# Altium schematic symbol library Altium Library Master.SchLib: 676 symbols (part 1 of 4)
Pins are listed as number, name and electrical type; pins without a type are passive.

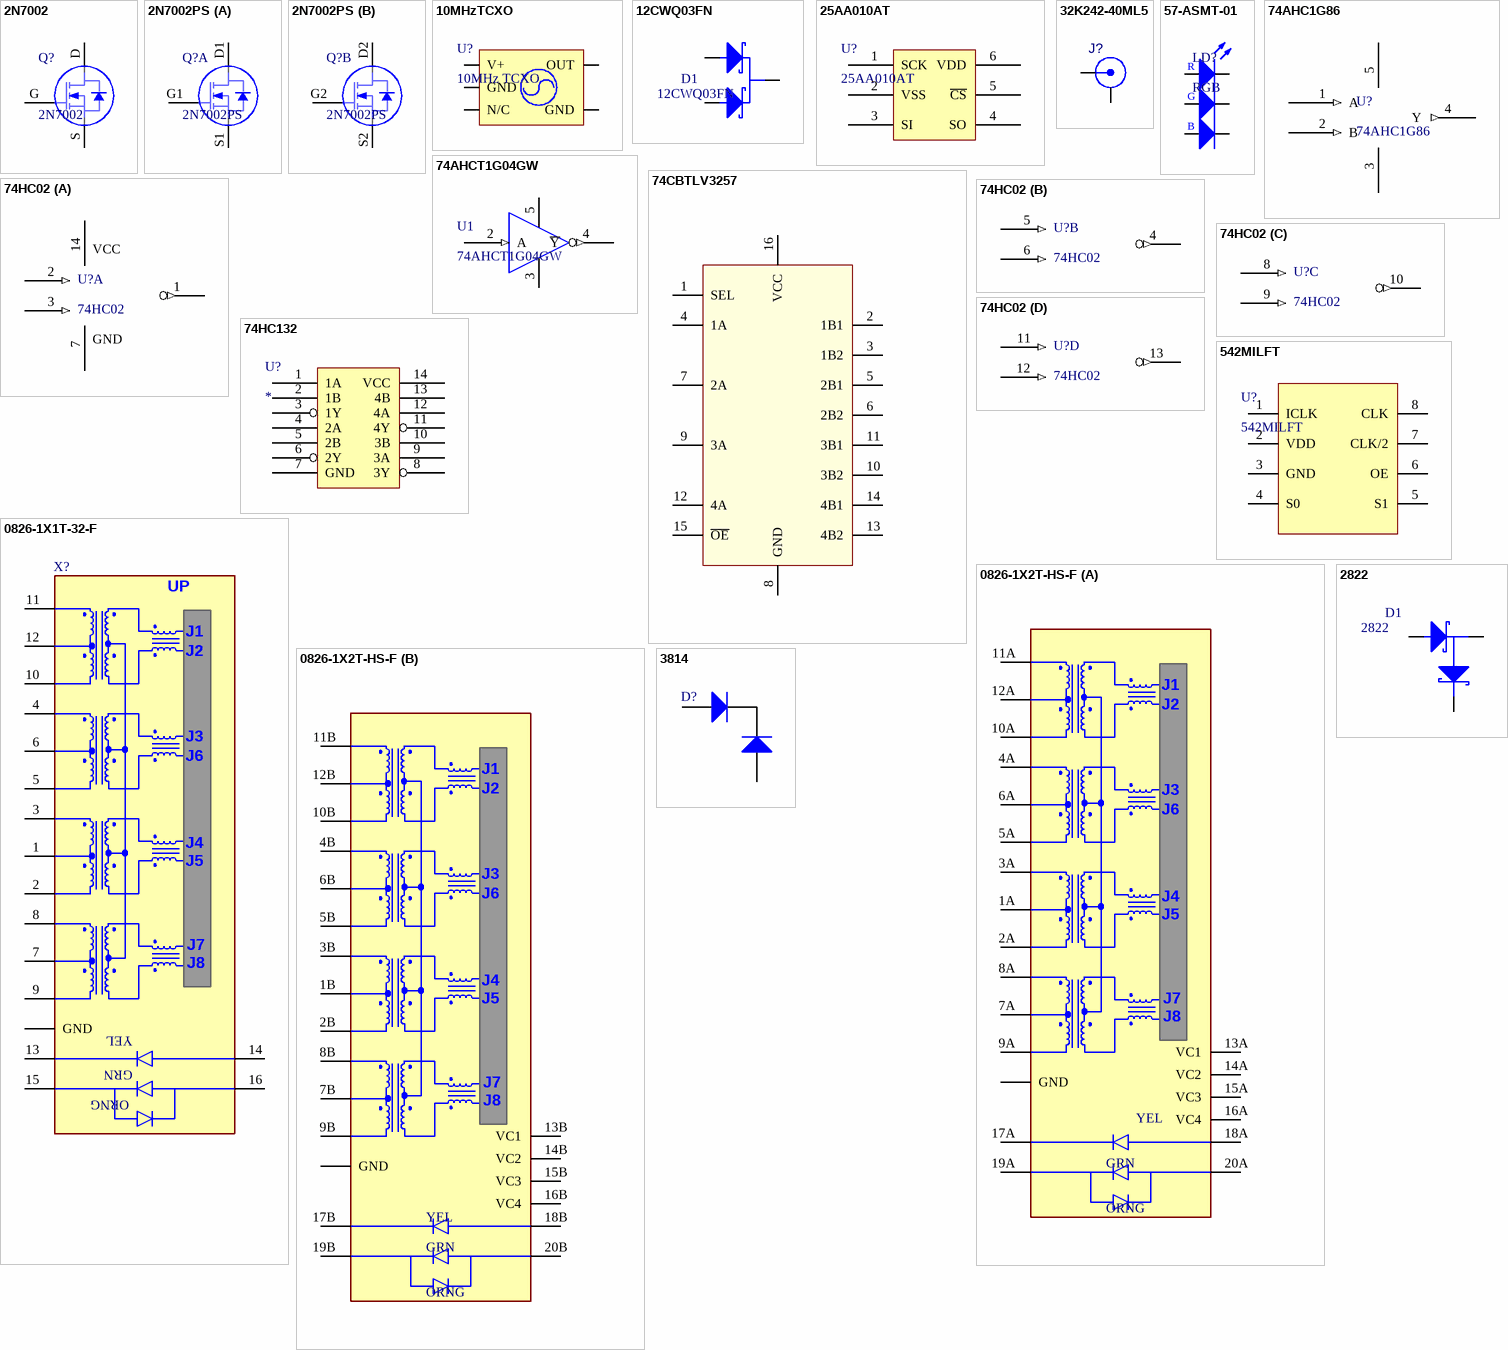
[diagram p0: symbols 2N7002 to 3814]

## 2N7002
designator Q?
Nch MOSFET, 0.2A, 60V
pins: D, G, S

## 2N7002PS
designator Q?
Nch Dual MOSFET, 0.2A, 60V
part A pins: D1, G1, S1
part B pins: D2, G2, S2

## 10MHzTCXO
designator U?, comment 10MHz TCXO
pins: 0 GND, 1 N/C, 2 GND, 3 OUT, 4 V+

## 12CWQ03FN
designator D1
Schottky Rectifier, 2 x 6 A
pins: 1, 2, 4
1 alternate drawing of the same symbol

## 25AA010AT
designator U?
1K SPI EEPROM
pins: 1 SCK, 2 VSS, 3 SI, 4 SO, 5 ~{CS}, 6 VDD

## 32K242-40ML5
designator J?  (value not drawn)
SMA connector, edge mount; Part Number: 30-SAF-22; MPN: 32K242-40ML5
footprint Connector-Sma-edge-Rosenberger (Rosenberger 32P242-40ML5)
pins: 0, 1

## 57-ASMT-01
designator LD?, comment RGB
LED, RGB, 450/560/285mcd@20mA,-40/+110degC, PLCC6; Part Number: 57-ASMT-01
footprint PLCC_ASMT
pins: 1 KB, 2 KG, 3 KR, 4 AR, 5 AG, 6 AB
text: R; G; B

## 74AHC1G86
designator U?
SINGLE 2-INPUT POSITIVE EXCLUSIVE OR GATE
pins: 1 A (in), 2 B (in), 3 GND, 4 Y (out), 5 VCC

## 74AHCT1G04GW
designator U1
Single inverter
pins: 2 A (in), 3 GND (power), 4 ~{Y} (out), 5 VCC (power)

## 74CBTLV3257
designator U?
Quad 1 of 2 multiplexer/demultiplexer, 3V3; Part Number: 20-H10-04
pins: 1 SEL, 2 1B1, 3 1B2, 4 1A, 5 2B1, 6 2B2, 7 2A, 8 GND, 9 3A, 10 3B2, 11 3B1, 12 4A, 13 4B2, 14 4B1, 15 ~{OE}, 16 VCC

## 74HC02
designator U?
NOR Gate, Quad 2-Input HCMOS, SO-14
footprint SOIC/TSSOP-14 (Footprint not found)
part A pins: 1 (out), 2 (in), 3 (in), 7 GND (power), 14 VCC (power)
part B pins: 4 (out), 5 (in), 6 (in)
part C pins: 8 (in), 9 (in), 10 (out)
part D pins: 11 (in), 12 (in), 13 (out)

## 74HC132
designator U?
Hex Inverting SCHMITT
pins: 1 1A, 2 1B, 3 1Y, 4 2A, 5 2B, 6 2Y, 7 GND, 8 3Y, 9 3A, 10 3B, 11 4Y, 12 4A, 13 4B, 14 VCC

## 542MILFT
designator U?
Clock Divider
pins: 1 ICLK, 2 VDD, 3 GND, 4 S0, 5 S1, 6 OE, 7 CLK/2, 8 CLK

## 0826-1X1T-32-F
designator X?
Socket, RJ45, wLEDs, wMagnetics; PCB Mnt, 10/100/1000BaseT; Part Number: 21-A8-13
footprint 0826-1X1T-32-F
pins: 1 4, 2 3, 3, 4, 5 11, 6, 7 9, 8, 9 8, 10 TRD1+, 11 TRD1+, 12 CT1, 13 YK, 14 YA, 15 GKOA, 16 GAOK, S1 GND, S2 GND
text: UP; J1; J2; J3; J6; J4; J5; J7; J8; YEL; GRN; ORNG

## 0826-1X2T-HS-F
designator X?
Socket, 2Gang RJ45, wLEDs, wMagnetics; PCB Mnt, 10/100/1000Base
part A pins: 1A, 2A, 3A, 4A, 5A, 6A, 7A, 8A, 9A, 10A, 11A, 12A, 13A VC1, 14A VC2, 15A VC3, 16A VC4, 17A YK, 18A YA, 19A GKOA, 20A GAOK, S1 GND
part B pins: 1B, 2B, 3B, 4B, 5B, 6B, 7B, 8B, 9B, 10B, 11B, 12B, 13B VC1, 14B VC2, 15B VC3, 16B VC4, 17B YK, 18B YA, 19B GKOA, 20B GAOK, S2 GND
part A text: J1; J2; J3; J6; J4; J5; J7; J8; YEL; GRN; ORNG
part B text: J1; J2; J3; J6; J4; J5; J7; J8; YEL; GRN; ORNG

## 2822
designator D1
pins: A, K, KA
1 alternate drawing of the same symbol

## 3814
designator D?
Dual Diode, Common Kathode
pins: 0 A2, A, K

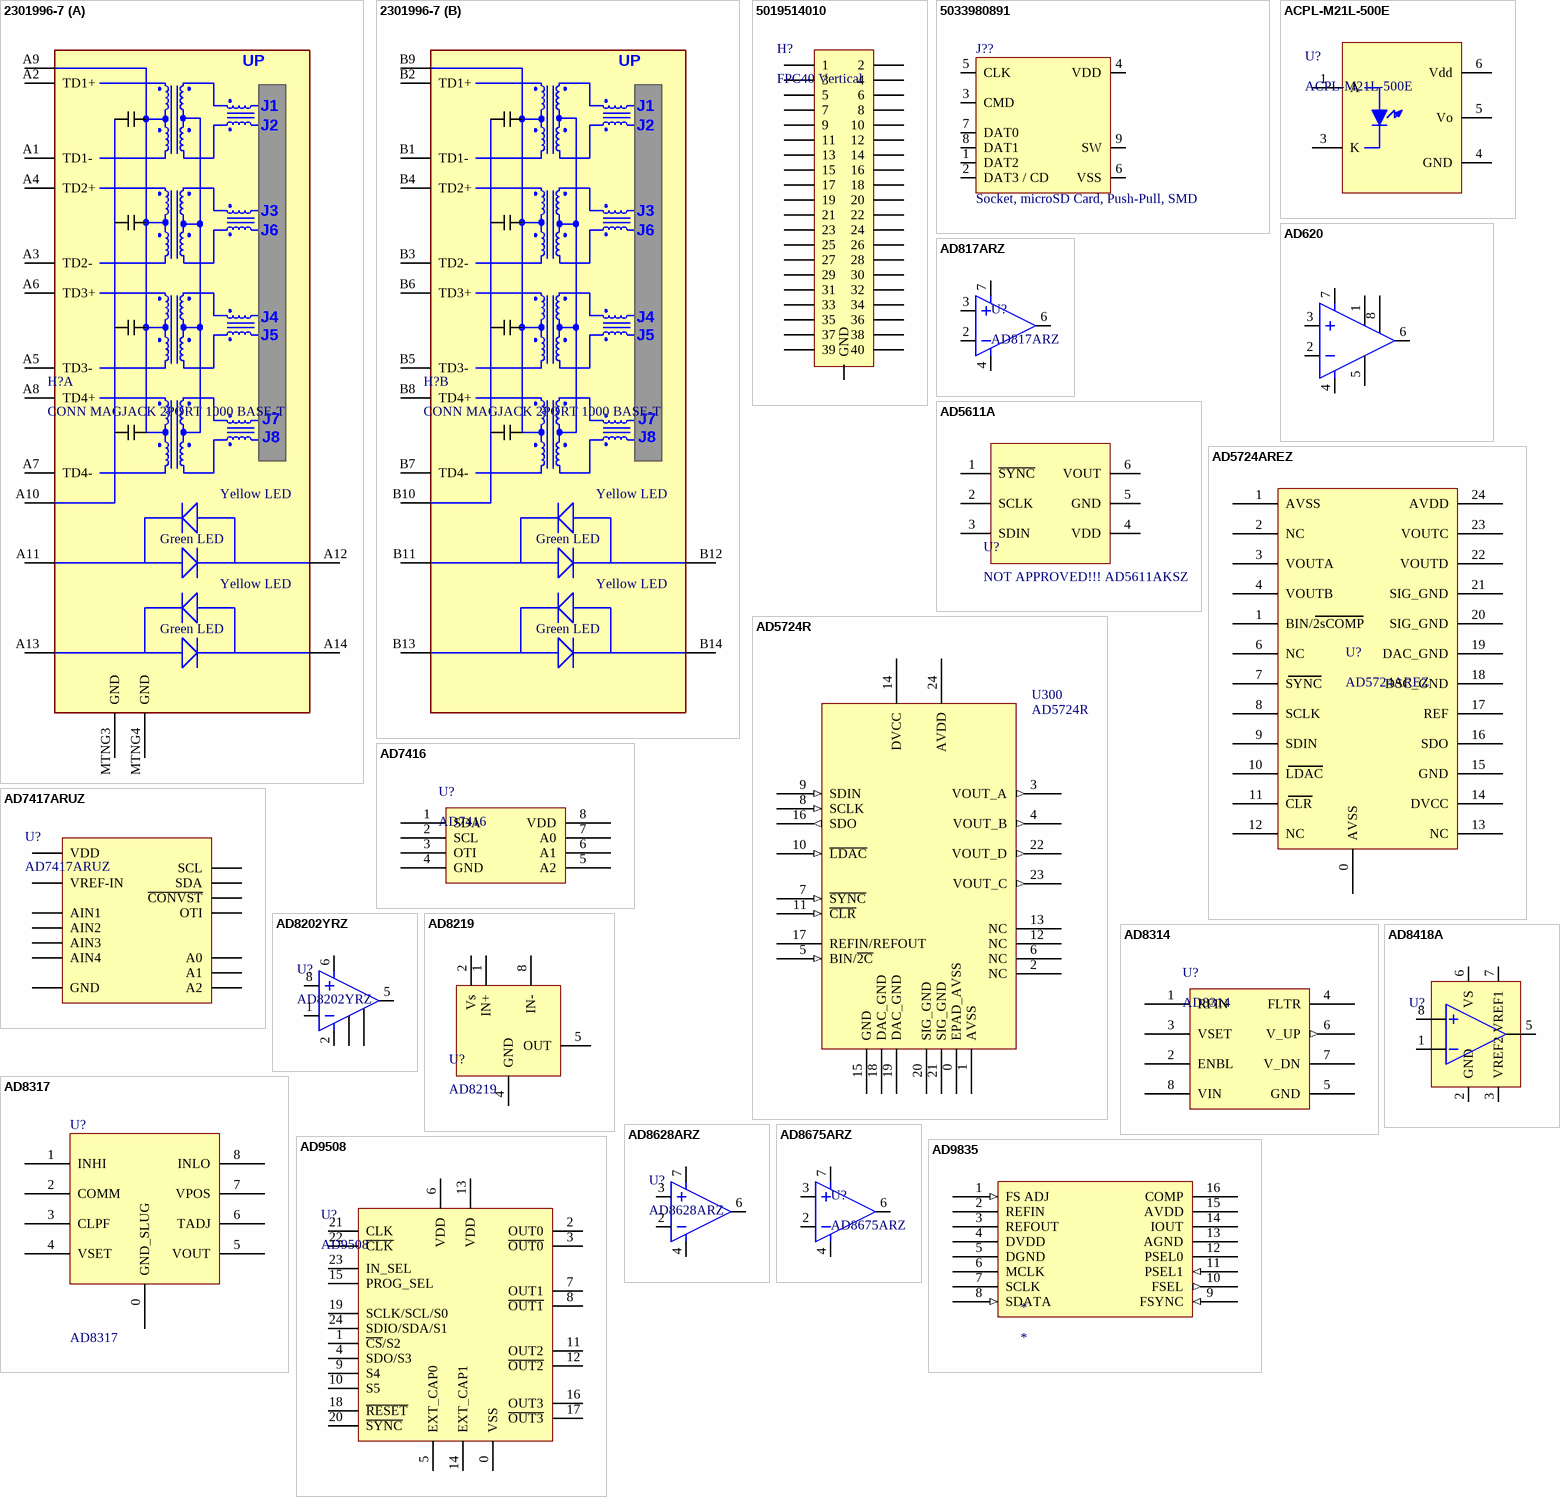
[diagram p1: symbols 2301996-7 to AD9835]

## 2301996-7
designator H?, comment CONN MAGJACK 2PORT 1000 BASE-T
part A pins: A1 TD1-, A2 TD1+, A3 TD2-, A4 TD2+, A5 TD3-, A6 TD3+, A7 TD4-, A8 TD4+, A9 9, A10 10, A11 11, A12 12, A13 13, A14 14, MTNG3 GND, MTNG4 GND
part B pins: B1 TD1-, B2 TD1+, B3 TD2-, B4 TD2+, B5 TD3-, B6 TD3+, B7 TD4-, B8 TD4+, B9 9, B10 10, B11 11, B12 12, B13 13, B14 14
part A text: UP; J1; J2; J3; J6; J4; J5; J7; J8; Yellow LED; Green LED
part B text: UP; J1; J2; J3; J6; J4; J5; J7; J8; Yellow LED; Green LED

## 5019514010
designator H?, comment FPC40 Vertical
FPC Header, 20+20way, Vert, 0.5mm, 4.34mm Height, SMD; Part Number: 20-H40-04
footprint FPC_0.5_40
pins: 0 GND, 1, 2, 3, 4, 5, 6, 7, 8, 9, 10, 11, 12, 13, 14, 15, 16, 17, 18, 19, 20, 21, 22, 23, 24, 25, 26, 27, 28, 29, 30, 31, 32, 33, 34, 35, 36, 37, 38, 39, 40

## 5033980891
designator J??, comment Socket, microSD Card, Push-Pull, SMD
Molex 20um push-push sd card 8+1; Part Number: 21-SD-02
footprint 5033980891_MOLEX
pins: 1 DAT2, 2 DAT3 / CD, 3 CMD, 4 VDD (power), 5 CLK, 6 VSS (power), 7 DAT0, 8 DAT1, 9 SW, 10 VSS (power), S1 VSS (power), S2 VSS (power), S3 VSS (power), S4 VSS (power)

## ACPL-M21L-500E
designator U?
Optocoupler, 3.75kV,  Logic Output, SO5, -40/+105degC; Part Number: 57-M21L-01
footprint SO5-M21L (SOIC, 6-Leads, Body 3.60x4.40mm, Pitch 1.27mm, IPC High Density)
pins: 1 A, 3 K, 4 GND, 5 Vo, 6 Vdd

## AD620
designator U?
Low Power Instrumentation Amplifier; Part Number: 20-H10-04
pins: 1 RG1, 2 -IN, 3 +IN, 4 Vs-, 5 REF, 6 OUT, 7 Vs+, 8 RG2

## AD817ARZ
designator U?
Op Amp, Wideband, 350V/us, 36V, SO-8
pins: 2, 3, 4, 6, 7

## AD5611A
designator U?, comment NOT APPROVED!!! AD5611AKSZ
D/A Converter, 10 Bit, SPI, 2.7-5.5V, -40/+125degC, SOT-363
pins: 1 ~{SYNC}, 2 SCLK, 3 SDIN, 4 VDD, 5 GND, 6 VOUT

## AD5724AREZ
designator U?
D/A Converter, 12 Bit, SPI, Bipolar Voltage Out, TSSOP_EP-24
pins: 0 AVSS, 1 BIN/2sCOMP, 1 AVSS, 2 NC, 3 VOUTA, 4 VOUTB, 6 NC, 7 SYNC, 8 SCLK, 9 SDIN, 10 LDAC, 11 CLR, 12 NC, 13 NC, 14 DVCC, 15 GND, 16 SDO, 17 REF, 18 DSC_GND, 19 DAC_GND, 20 SIG_GND, 21 SIG_GND, 22 VOUTD, 23 VOUTC, 24 AVDD

## AD5724R
designator U300
pins: 0 EPAD_AVSS (power), 1 AVSS (power), 2 NC, 3 VOUT_A (out), 4 VOUT_B (out), 5 BIN/~{2C} (in), 6 NC, 7 ~{SYNC} (in), 8 SCLK (in), 9 SDIN (in), 10 ~{LDAC} (in), 11 ~{CLR} (in), 12 NC, 13 NC, 14 DVCC (power), 15 GND (power), 16 SDO (out), 17 REFIN/REFOUT, 18 DAC_GND (power), 19 DAC_GND (power), 20 SIG_GND (power), 21 SIG_GND (power), 22 VOUT_D (out), 23 VOUT_C (out), 24 AVDD (power)

## AD7416
designator U?
10-Bit Digital Temperature Sensor
pins: 1 SDA, 2 SCL (power), 3 OTI, 4 GND, 5 A2 (power), 6 A1 (power), 7 A0, 8 VDD (power)

## AD7417ARUZ
designator U?
Temp Sensor, 10bit 2%, 4ch ADC, IIC, -40/+125degC, TSSOP-16
pins: 2 SDA, 3 SCL, 4 OTI, 5 VREF-IN, 6 GND, 7 AIN1, 8 AIN2, 9 AIN3, 10 AIN4, 11 A2, 12 A1, 13 A0, 14 VDD, 15 ~{CONVST}

## AD8202YRZ
designator U?
Difference Amp, Hi Common-Mode Volt, -40/+125degC, SO-8
pins: 1 -IN, 2 GND, 3 A1, 4 A2, 5 OUT, 6 Vs, 8 +IN

## AD8219
designator U?
Current Shunt Monitor, 80V, -40/+125degC, MSOP-8
pins: 1 IN+, 2 Vs, 4 GND, 5 OUT, 8 IN-

## AD8314
designator U?
100MHz to 2.7GHz, 45dB RF Detector/Controller
pins: 1 RFIN, 2 ENBL, 3 VSET (power), 4 FLTR (power), 5 GND (power), 6 V_UP (out), 7 V_DN (power), 8 VIN

## AD8317
designator U?
10GHz Log Detector/Controller
pins: 0 GND_SLUG (power), 1 INHI, 2 COMM, 3 CLPF, 4 VSET, 5 VOUT, 6 TADJ, 7 VPOS, 8 INLO

## AD8418A
designator U?
Low noise rail-rail op-amp
pins: 1 IN-, 2 GND, 3 VREF2, 5 Out, 6 VS, 7 VREF1, 8 IN+

## AD8628ARZ
designator U?
Op Amp, Zero-Drift, Rail-Rail I/O, SO-8
pins: 2, 3, 4, 6, 7

## AD8675ARZ
designator U?
Op Amp, Low Noise, Rail-Rail, 36V, SO-8
pins: 2, 3, 4, 6, 7

## AD9508
designator U?
Clock Buffer/divider, LVDS/HSTL/CMOS, +3V3
pins: 0 VSS, 1 ~{CS}/S2, 2 OUT0, 3 ~{OUT0}, 4 SDO/S3, 5 EXT_CAP0, 6 VDD, 7 OUT1, 8 ~{OUT1}, 9 S4, 10 S5, 11 OUT2, 12 ~{OUT2}, 13 VDD, 14 EXT_CAP1, 15 PROG_SEL, 16 OUT3, 17 ~{OUT3}, 18 ~{RESET}, 19 SCLK/SCL/S0, 20 ~{SYNC}, 21 CLK, 22 ~{CLK}, 23 IN_SEL, 24 SDIO/SDA/S1

## AD9835
designator *
50MHz Complete DDS
footprint TSSOP16
pins: 1 FS ADJ (in), 2 REFIN (power), 3 REFOUT (power), 4 DVDD (power), 5 DGND (power), 6 MCLK (power), 7 SCLK (power), 8 SDATA (in), 9 FSYNC (in), 10 FSEL (out), 11 PSEL1 (in), 12 PSEL0, 13 AGND (power), 14 IOUT (power), 15 AVDD (power), 16 COMP (power)

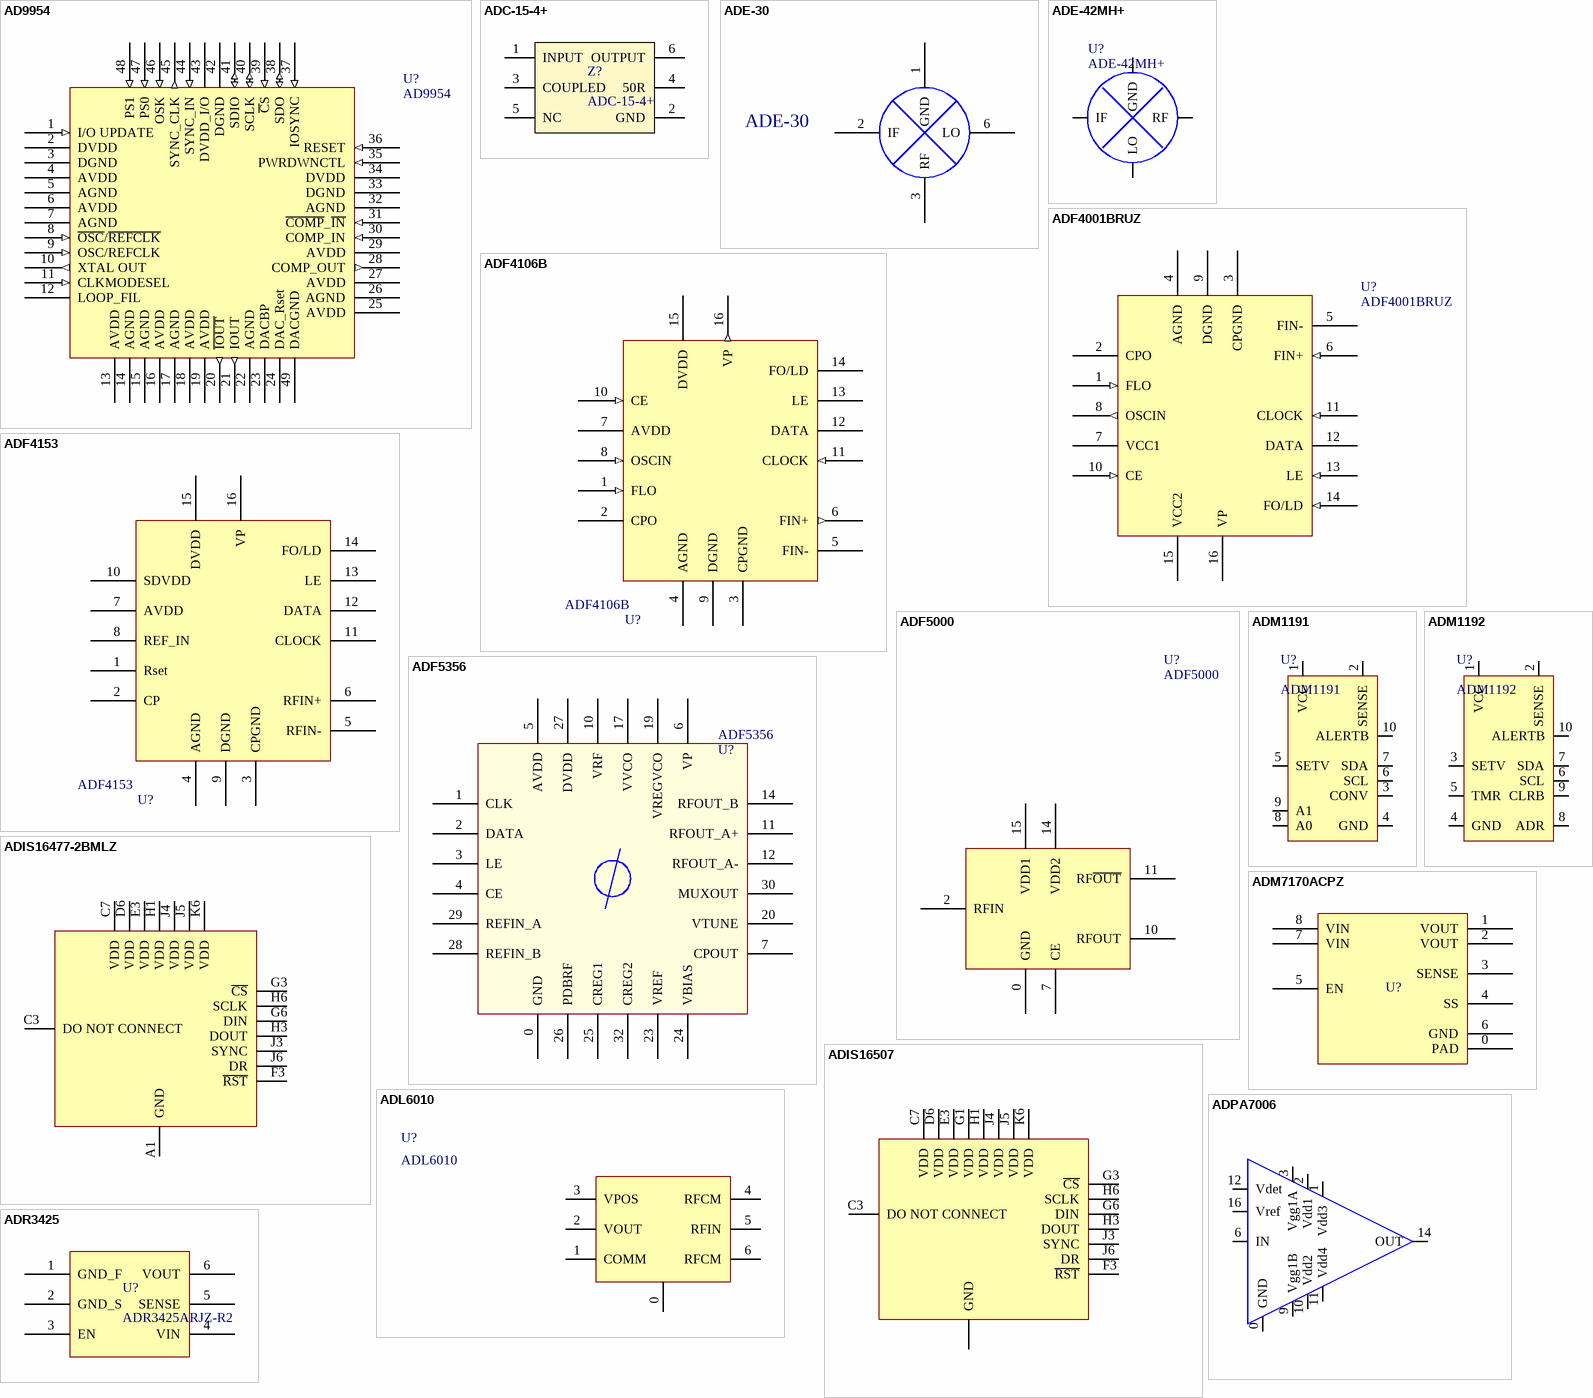
[diagram p2: symbols AD9954 to ADR3425]

## AD9954
designator U?
Direct Digital Synthesizer
pins: 1 I/O UPDATE (in), 2 DVDD (power), 3 DGND (power), 4 AVDD (power), 5 AGND (power), 6 AVDD (power), 7 AGND (power), 8 ~{OSC}/~{REFCLK} (in), 9 OSC/REFCLK (in), 10 XTAL OUT (out), 11 CLKMODESEL (in), 12 LOOP_FIL, 13 AVDD (power), 14 AGND (power), 15 AGND (power), 16 AVDD (power), 17 AGND (power), 18 AVDD (power), 19 AVDD (power), 20 ~{IOUT} (out), 21 IOUT (out), 22 AGND (power), 23 DACBP, 24 DAC_Rset, 25 AVDD (power), 26 AGND (power), 27 AVDD (power), 28 COMP_OUT (out), 29 AVDD (power), 30 COMP_IN (in), 31 ~{COMP}_~{IN} (in), 32 AGND (power), 33 DGND (power), 34 DVDD (power), 35 PWRDWNCTL (in), 36 RESET (in), 37 IOSYNC (in), 38 SDO (io), 39 ~{C}S (in), 40 SCLK (io), 41 SDIO (io), 42 DGND (power), 43 DVDD_I/O, 44 SYNC_IN (in), 45 SYNC_CLK (out), 46 OSK (in), 47 PS0 (in), 48 PS1 (in), 49 DACGND (power)

## ADC-15-4+
designator Z?
Dircetional Coupler, 50R, 5-1000MHz; Part Number: 33-0058
footprint ADC-15-4+ (Directional Coupler 50R, 5-1000MHz)
pins: 1 INPUT, 2 GND, 3 COUPLED, 4 50R, 5 NC, 6 OUTPUT

## ADE-30
designator M6
pins: 1 GND, 2 IF, 3 RF, 4 GND hidden to GND, 5 GND hidden to GND, 6 LO

## ADE-42MH+
designator U?
Mixer, RF=5-4200MHz, IF=5-4200MHz, LO=+13dBm, SMD
pins: 1 GND, 2 IF, 3 RF, 4 GND hidden to GND, 5 GND hidden to GND, 6 LO

## ADF4001BRUZ
designator U?
PLL Clock Gen, 200MHz, Serial TSSOP-16
pins: 1 FLO (in), 2 CPO, 3 CPGND, 4 AGND, 5 FIN- (power), 6 FIN+ (in), 7 VCC1 (power), 8 OSCIN (out), 9 DGND, 10 CE (in), 11 CLOCK (in), 12 DATA, 13 LE (in), 14 FO/LD (in), 15 VCC2 (power), 16 VP (power)

## ADF4106B
designator U?
pins: 1 FLO (in), 2 CPO, 3 CPGND (power), 4 AGND (power), 5 FIN- (power), 6 FIN+ (out), 7 AVDD (power), 8 OSCIN (in), 9 DGND, 10 CE (in), 11 CLOCK (in), 12 DATA, 13 LE, 14 FO/LD, 15 DVDD, 16 VP (out)

## ADF4153
designator U?
pins: 1 Rset, 2 CP, 3 CPGND (power), 4 AGND (power), 5 RFIN- (power), 6 RFIN+, 7 AVDD (power), 8 REF_IN, 9 DGND, 10 SDVDD, 11 CLOCK, 12 DATA, 13 LE, 14 FO/LD, 15 DVDD, 16 VP

## ADF5000
designator U?
4-18GHz Divide-by-2 Prescaler
pins: 0 GND, 1 GND hidden to GND, 2 RFIN, 3 GND hidden to GND, 4 GND hidden to GND, 5 GND hidden to GND, 7 CE, 8 GND hidden to GND, 9 GND hidden to GND, 10 RFOUT, 11 RF~{OUT}, 12 GND hidden to GND, 13 GND hidden to GND, 14 VDD2, 15 VDD1, 16 GND hidden to GND

## ADF5356
designator U?
13.6GHz fractional PLL.
pins: 0 GND, 1 CLK "Clock", 2 DATA "Data", 3 LE "Load Enable", 4 CE "Chip Enable", 5 AVDD "Analog Power Supply", 6 VP "CP Power Supply", 7 CPOUT "CP Output", 8 GND hidden "Ground", 9 GND hidden "Ground", 10 VRF "RF Output Power Supply", 11 RFOUT_A+ "RF Output A+", 12 RFOUT_A- "RF Output A-", 13 GND hidden "Ground", 14 RFOUT_B "RF Output B", 15 GND hidden "Ground", 16 AVDD "Analog Power Supply", 17 VVCO "VCO Power Supply", 18 GND hidden "Ground", 19 VREGVCO "VCO Compensation", 20 VTUNE "VCO Control Input", 21 GND hidden "Ground", 22 N/C hidden "Not Connected", 23 VREF "Internal Compensation", 24 VBIAS "Ref Voltage", 25 CREG1 "LDO Output", 26 PDBRF "Power-Down RF", 27 DVDD "Digital Power Supply", 28 REFIN_B "Reference Input B", 29 REFIN_A "Reference Input A", 30 MUXOUT (power) "Multiplexer Output", 31 GND hidden "Ground", 32 CREG2 "LDO Output"

## ADIS16477-2BMLZ
designator U?
Inertial Measurement Unit, IMU, Triaxial Gyro, Accelerometer, 3V3, 11mmx15mm 44-BGA; Part Number: 20-H10-04
pins: A1 GND, A2 GND, A3 GND, A4 GND, A5 GND, A6 GND, A7 GND, A8 GND, B3 GND, B4 GND, B5 GND, B6 GND, C2 GND, C3 DO NOT CONNECT, C6 GND, C7 VDD, D3 GND, D6 VDD, E2 GND, E3 VDD, E6 GND, E7 GND, F1 GND, F3 ~{RST}, F6 GND, F8 GND, G2 GND, G3 ~{CS}, G6 DIN, G7 GND, H1 VDD, H3 DOUT, H6 SCLK, H8 GND, J2 GND, J3 SYNC, J4 VDD, J5 VDD, J6 DR, J7 GND, K1 GND, K3 GND, K6 VDD, K8 GND

## ADIS16507
designator U?
Inertial Measurement Unit, IMU, Triaxial Gyro, Accelerometer, 3V3, , 15mmx15mm 100-BGA; Part Number: 20-H10-04
footprint BGA100C127P10X10_1500X1500X608 (BGA, 100-Leads, Body 15.00x15.00mmx6.08mm, Pitch 1.27mm)
pins: A1 GND, A2 GND, A3 GND, A4 GND, A5 GND, A6 GND, A7 GND, A8 GND, B3 GND, B4 GND, B5 GND, B6 GND, C2 GND, C3 DO NOT CONNECT, C6 GND, C7 VDD, D3 GND, D6 VDD, E2 GND, E3 VDD, E6 GND, E7 GND, F1 GND, F3 ~{RST}, F5 GND, F6 GND, F8 GND, G1 VDD, G2 GND, G3 ~{CS}, G6 DIN, G7 GND, H1 VDD, H3 DOUT, H6 SCLK, H8 GND, J2 GND, J3 SYNC, J4 VDD, J5 VDD, J6 DR, J7 GND, K1 GND, K3 GND, K6 VDD, K8 GND

## ADL6010
designator U?
pins: 0 GND, 1 COMM, 2 VOUT, 3 VPOS, 4 RFCM, 5 RFIN, 6 RFCM

## ADM1191
designator U?
Analog Devices Digital Power Monitor
pins: 1 VCC, 2 SENSE, 3 CONV, 4 GND, 5 SETV, 6 SCL, 7 SDA, 8 A0, 9 A1, 10 ALERTB

## ADM1192
designator U?
Analog Devices Digital Power Monitor
pins: 1 VCC, 2 SENSE, 3 SETV, 4 GND, 5 TMR, 6 SCL, 7 SDA, 8 ADR, 9 CLRB, 10 ALERTB

## ADM7170ACPZ
designator U?
3.3/5.0V, 500mA, Ultralow Noise LDO
footprint LFSCP50P300X300X80_HS-9N (LFSCP, 8-Leads, Body 3.00x3.00mm, Pitch 0.50mm, Thermal Pad 1.60x2.44mm, IPC Medium Density)
pins: 0 PAD, 1 VOUT, 2 VOUT, 3 SENSE, 4 SS, 5 EN, 6 GND, 7 VIN, 8 VIN

## ADPA7006
designator U?
Part Number: 20-H10-04
pins: 0 GND, 1 Vdd3, 2 Vdd1, 3 Vgg1A, 4 GND hidden to GND, 5 GND hidden to GND, 6 IN, 7 GND hidden to GND, 8 GND hidden to GND, 9 Vgg1B, 10 Vdd2, 11 Vdd4, 12 Vdet, 13 GND hidden to GND, 14 OUT, 15 GND hidden to GND, 16 Vref

## ADR3425
designator U?, comment ADR3425ARJZ-R2
Voltage Ref, 2.50V +/-0.1%, 8ppm/degC, -40/+125degC, SOT-23/6
pins: 1 GND_F, 2 GND_S, 3 EN, 4 VIN, 5 SENSE, 6 VOUT

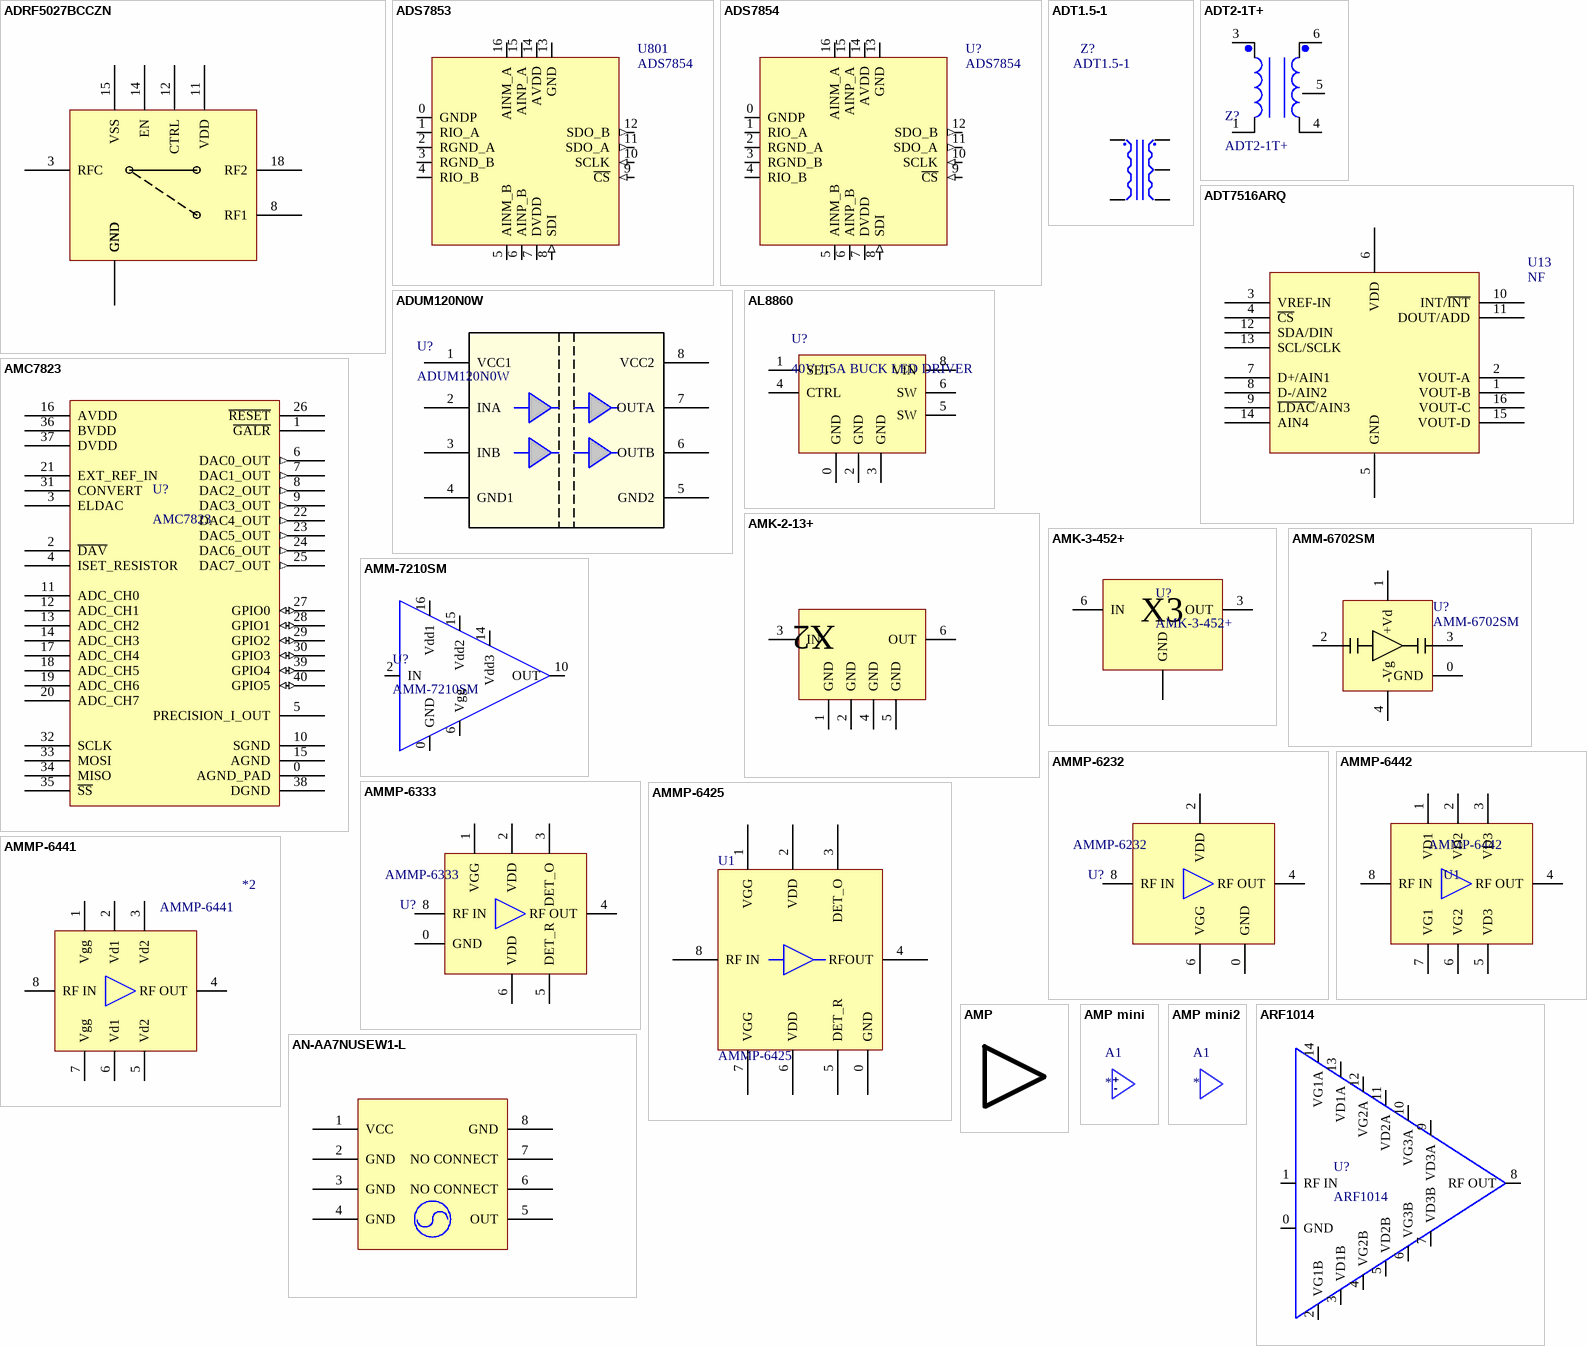
[diagram p3: symbols ADRF5027BCCZN to ARF1014]

## ADRF5027BCCZN
designator U?
RF Switch, SPDT, DC-4GHz, IL=0.9dB, I=65dB, P=31dBm, 5V, LP4; Part Number: 20-H10-04
pins: 0 GND, 1 GND, 2 GND, 3 RFC, 4 GND, 5 GND, 6 GND, 7 GND, 8 RF1, 9 GND, 10 GND, 11 VDD, 12 CTRL, 13 GND, 14 EN, 15 VSS, 16 GND, 17 GND, 18 RF2, 19 GND, 20 GND

## ADS7853
designator U801, comment ADS7854
pins: 0 GNDP (power), 1 RIO_A, 2 RGND_A, 3 RGND_B, 4 RIO_B, 5 AINM_B, 6 AINP_B, 7 DVDD (power), 8 SDI (in), 9 ~{CS} (in), 10 SCLK (in), 11 SDO_A (out), 12 SDO_B (out), 13 GND (power), 14 AVDD (power), 15 AINP_A, 16 AINM_A

## ADS7854
designator U?
pins: 0 GNDP (power), 1 RIO_A, 2 RGND_A, 3 RGND_B, 4 RIO_B, 5 AINM_B, 6 AINP_B, 7 DVDD (power), 8 SDI (in), 9 ~{CS} (in), 10 SCLK (in), 11 SDO_A (out), 12 SDO_B (out), 13 GND (power), 14 AVDD (power), 15 AINP_A, 16 AINM_A

## ADT1.5-1
designator Z?
pins: 1, 2, 3, 4, 6

## ADT2-1T+
designator Z?
RF Transformer. 0.4-450MHz, 50ohm, SMD
pins: 1, 3, 4, 5, 6

## ADT7516ARQ
designator U13, comment NF
footprint QSOP16 (SSOP; 16 Leads; Body Width 3.9 mm; Pitch 0.635 mm)
pins: 1 VOUT-B, 2 VOUT-A, 3 VREF-IN, 4 ~{CS}, 5 GND, 6 VDD (power), 7 D+/AIN1, 8 D-/AIN2, 9 ~{LDAC}/AIN3, 10 INT/~{INT}, 11 DOUT/ADD, 12 SDA/DIN, 13 SCL/SCLK, 14 AIN4, 15 VOUT-D, 16 VOUT-C

## ADUM120N0W
designator U?
Digital Isolator, Dual, Isol=3kVrms, 150MBs
pins: 1 VCC1, 2 INA, 3 INB, 4 GND1, 5 GND2, 6 OUTB, 7 OUTA, 8 VCC2

## AL8860
designator U?, comment 40V 1.5A BUCK LED DRIVER
pins: 0 GND, 1 SET, 2 GND, 3 GND, 4 CTRL, 5 SW, 6 SW, 7 N/C hidden, 8 VIN

## AMC7823
designator U?
Port Expander, 6 GPIO, 8ch 12-bit ADC, 8 12-bit DACs
footprint QFN50P567X600X80_HS-41N (QFN, 40-Leads, Body 5.67x6.00mm, Pitch 0.50mm, Thermal Pad 4.15x4.15mm, IPC Medium Density)
pins: 0 AGND_PAD, 1 ~{GALR}, 2 ~{DAV}, 3 ELDAC, 4 ISET_RESISTOR, 5 PRECISION_I_OUT, 6 DAC0_OUT (out), 7 DAC1_OUT (out), 8 DAC2_OUT (out), 9 DAC3_OUT (out), 10 SGND, 11 ADC_CH0, 12 ADC_CH1, 13 ADC_CH2, 14 ADC_CH3, 15 AGND, 16 AVDD, 17 ADC_CH4, 18 ADC_CH5, 19 ADC_CH6, 20 ADC_CH7, 21 EXT_REF_IN, 22 DAC4_OUT (out), 23 DAC5_OUT (out), 24 DAC6_OUT (out), 25 DAC7_OUT (out), 26 ~{RESET}, 27 GPIO0 (io), 28 GPIO1 (io), 29 GPIO2 (io), 30 GPIO3 (io), 31 CONVERT, 32 SCLK, 33 MOSI, 34 MISO, 35 ~{SS}, 36 BVDD, 37 DVDD, 38 DGND, 39 GPIO4 (io), 40 GPIO5 (io)

## AMK-2-13+
designator U?
MMIC, Multiplier x2, 10-500MHz to 20-1000MHz, Pin=+4dBm-+10dBm
pins: 1 GND, 2 GND, 3 IN, 4 GND, 5 GND, 6 OUT
text: X2

## AMK-3-452+
designator U?
3x Multiplier
pins: 1 GND, 2 NC hidden to GND "External Termination Pin", 3 OUT, 4 GND hidden to GND, 5 GND hidden to GND, 6 IN
text: X3

## AMM-6702SM
designator U?
Marki AMM-6702SM 20-50GHz GaAs LO Driver Amplifier, +19dBm output; Part Number: 58-AMM6702-01
pins: 0 GND, 1 +Vd, 2 IN, 3 OUT, 4 -Vg

## AMM-7210SM
designator U?
Marki 25-50 GHz GaAs SMT LO Driver Amplifier
pins: 0 GND, 1 GND hidden to GND, 2 IN, 3 GND hidden to GND, 4 GND hidden to GND, 5 GND hidden to GND, 6 Vgg, 7 GND hidden to GND, 8 GND hidden to GND, 9 GND hidden to GND, 10 OUT, 11 GND hidden to GND, 12 GND hidden to GND, 13 GND hidden to GND, 14 Vdd3, 15 Vdd2, 16 Vdd1

## AMMP-6232
designator U?
LNA, 18 - 32 GHz
pins: 0 GND, 2 VDD, 4 RF OUT, 6 VGG, 8 RF IN

## AMMP-6333
designator U?
Driver, 18 - 33 GHz
pins: 0 GND, 1 VGG, 2 VDD, 3 DET_O, 4 RF OUT, 5 DET_R, 6 VDD, 8 RF IN

## AMMP-6425
designator U1
pins: 0 GND, 1 VGG, 2 VDD, 3 DET_O, 4 RFOUT, 5 DET_R, 6 VDD, 7 VGG, 8 RF IN

## AMMP-6441
designator *2
pins: 1 Vgg, 2 Vd1, 3 Vd2, 4 RF OUT, 5 Vd2, 6 Vd1, 7 Vgg, 8 RF IN

## AMMP-6442
designator U1
pins: 1 VD1, 2 VD2, 3 VD3, 4 RF OUT, 5 VD3, 6 VG2, 7 VG1, 8 RF IN

## AMP
designator U?

## AMP mini
designator A1
text: +; -

## AMP mini2
designator A1

## AN-AA7NUSEW1-L
designator ?
Part Number: 20-H10-04
footprint AN-AA7NUSEW1-L (TCXO, e.g. 35-0354)
pins: 1 VCC, 2 GND, 3 GND, 4 GND, 5 OUT, 6 NO CONNECT, 7 NO CONNECT, 8 GND

## ARF1014
designator U?
12W GaN MMIC Power Amplifier, Ka-Band, 27 - 31.5 GHz
footprint ARF1014 (12W GaN MMIC Power Amplifier, Ka-Band, 27 - 31.5 GHz)
pins: 0 GND, 1 RF IN, 2 VG1B, 3 VD1B, 4 VG2B, 5 VD2B, 6 VG3B, 7 VD3B, 8 RF OUT, 9 VD3A, 10 VG3A, 11 VD2A, 12 VG2A, 13 VD1A, 14 VG1A

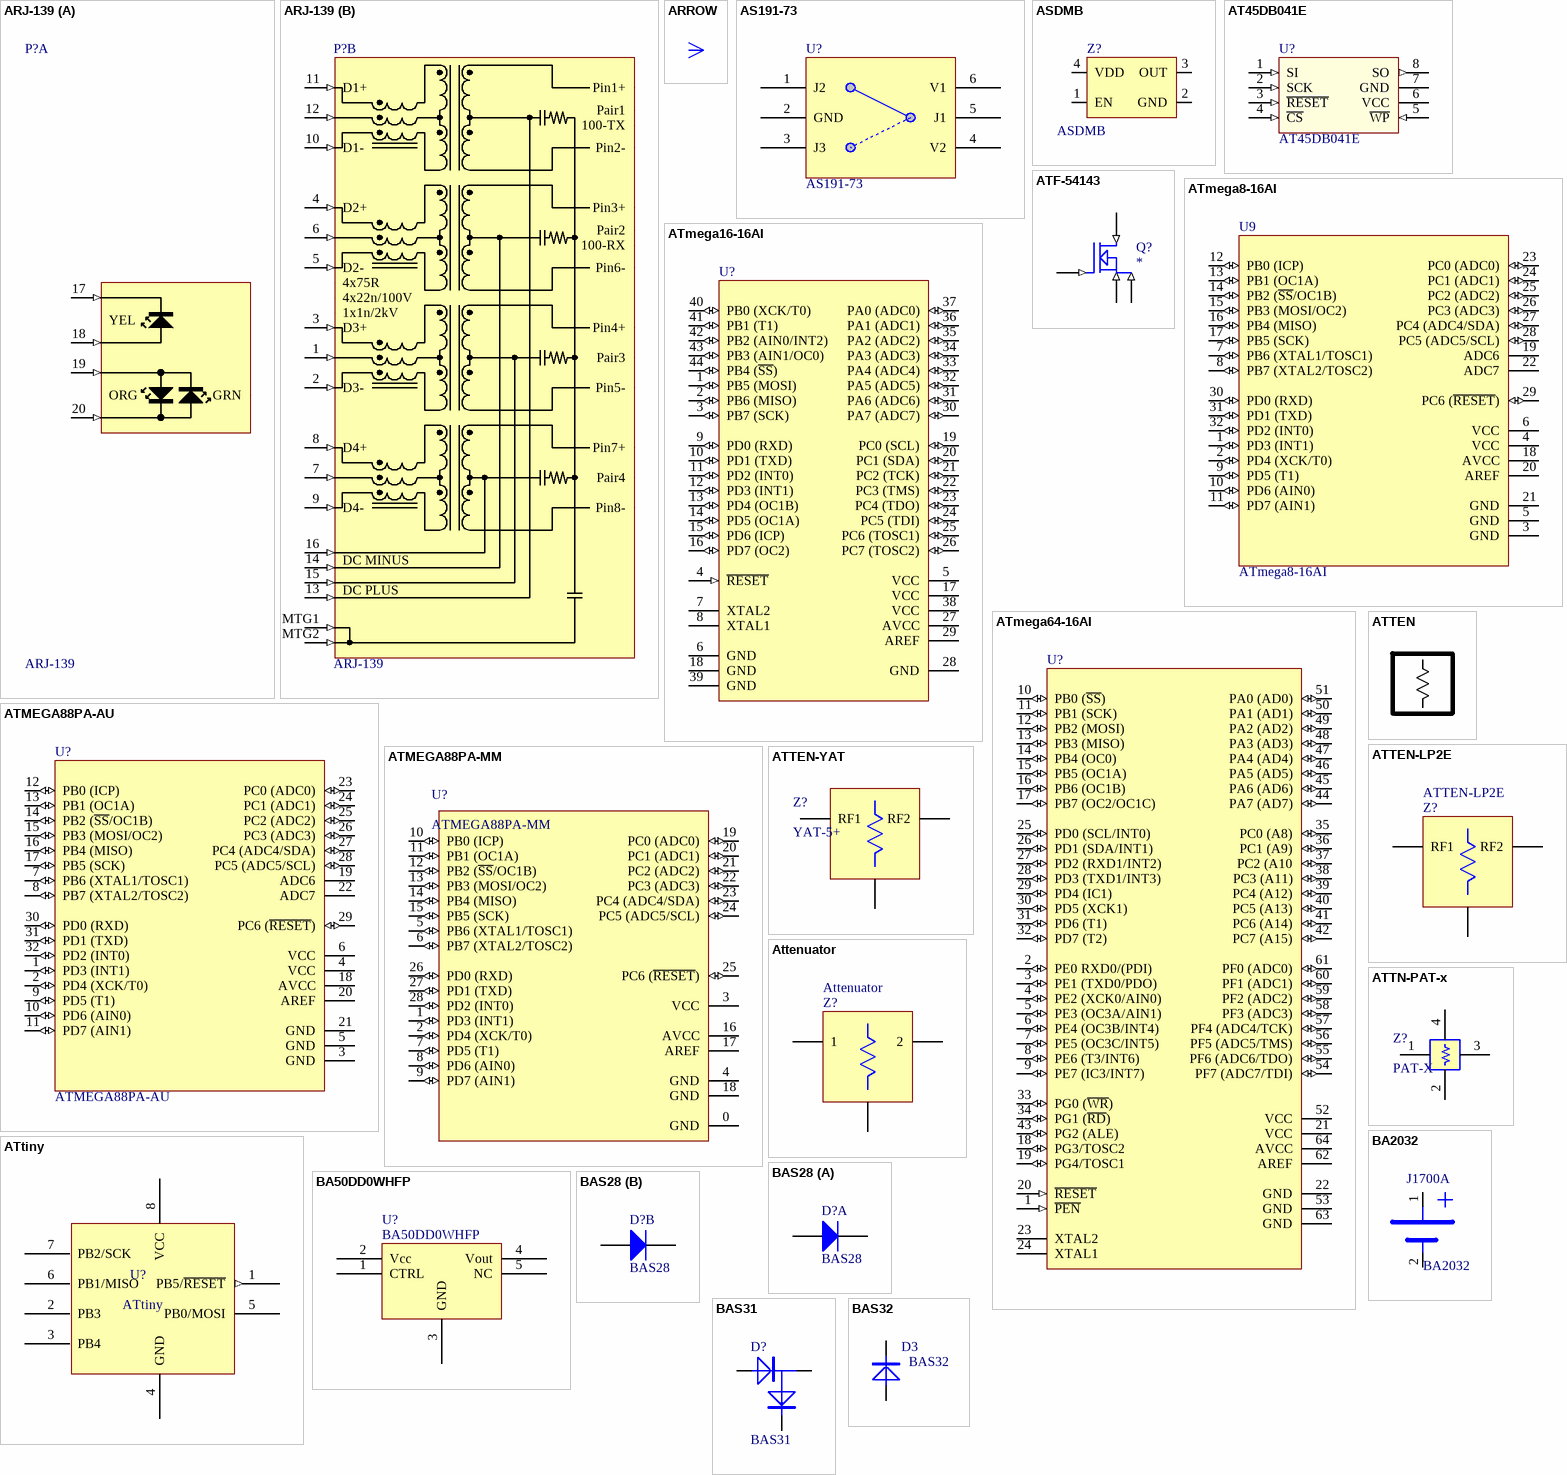
[diagram p4: symbols ARJ-139 to BAS32]

## ARJ-139
designator P?
Abracon ARJ-139 POE++ 1000 Base-T single port RJ45; Part Number: unknown; MPN: ARJ-139
part A pins: 17 (in), 18 (in), 19 (in), 20 (in), GRN, ORG, YEL
part B pins: 1 Pin1+, 1 Pair1, 1 (in), 1x1n/2kV, 2 Pin2-, 2 Pair2, 2 D3- (in), 3 Pin3+, 3 Pair3, 3 D3+ (in), 4 Pin4+, 4 Pair4, 4 D2+ (in), 4x22n/100V, 4x75R, 5 Pin5-, 5 D2- (in), 6 Pin6-, 6 (in), 7 Pin7+, 7 (in), 8 Pin8-, 8 D4+ (in), 9 D4- (in), 10 D1- (in), 11 D1+ (in), 12 (in), 13 (in), 14 (in), 15 (in), 16 (in), 100-RX, 100-TX, DC MINUS, DC PLUS, MTG1 (in), MTG2 (in)

## ARROW
designator A?  (value not drawn)  (graphical)

## AS191-73
designator U?
SPDT RF Switch
pins: 1 J2, 2 GND, 3 J3, 4 V2, 5 J1, 6 V1

## ASDMB
designator Z?
50MHz Silicon Oscillator (10ppm stability, industrial temp)
pins: 1 EN, 2 GND, 3 OUT, 4 VDD (power)

## AT45DB041E
designator U?
Embedded Flash, 512kx8, 85MHz, SPI, -40/+85C, SOIC-8N; Part Number: 51-F4M-02; Value: AT45DB041E
footprint SOIC-8N/W (Footprint suits normal, narrow or wide SOIC-8 components)
pins: 1 SI (in), 2 SCK (in), 3 ~{RESET} (in), 4 ~{CS} (in), 5 ~{WP} (in), 6 VCC (power), 7 GND (power), 8 SO (out)

## ATF-54143
designator Q?
E-pHEMT
pins: 1 D (in), 2 S (in), 3 G (in), 4 S (in)

## ATmega8-16AI
designator U9
8-Bit AVR Microcontroller with 8K Bytes of In-System Programmable Flash Memory; Published: 17-Sep-2003; LatestRevisionDate: 13-Apr-2006; LatestRevisionNote: IPC-7351 Footprint Added.; DatasheetVersion: 2486H-AVR-09/02; PackageVersion: revB, Oct-2001; PackageReference: 32A; Publisher: Altium Limited; PackageDescription: 32-Pin Thin Quad Flat Pack 0.8 mm Pitch; Code_JEDEC: MS-026-ABA; ComponentLink1Description: Manufacturer Link; ComponentLink1URL: http://www.atmel.com; ComponentLink2Description: Datasheet; ComponentLink2URL: http://www.atmel.com/dyn/resources/prod_documents/doc2486.pdf
pins: 1 PD3 (INT1) (io), 2 PD4 (XCK/T0) (io), 3 GND, 4 VCC (power), 5 GND, 6 VCC (power), 7 PB6 (XTAL1/TOSC1) (io), 8 PB7 (XTAL2/TOSC2) (io), 9 PD5 (T1) (io), 10 PD6 (AIN0) (io), 11 PD7 (AIN1) (io), 12 PB0 (ICP) (io), 13 PB1 (OC1A) (io), 14 PB2 (~{SS}/OC1B) (io), 15 PB3 (MOSI/OC2) (io), 16 PB4 (MISO) (io), 17 PB5 (SCK) (io), 18 AVCC (power), 19 ADC6, 20 AREF, 21 GND, 22 ADC7, 23 PC0 (ADC0) (io), 24 PC1 (ADC1) (io), 25 PC2 (ADC2) (io), 26 PC3 (ADC3) (io), 27 PC4 (ADC4/SDA) (io), 28 PC5 (ADC5/SCL) (io), 29 PC6 (~{RESET}) (io), 30 PD0 (RXD) (io), 31 PD1 (TXD) (io), 32 PD2 (INT0) (io)

## ATmega16-16AI
designator U?
8-Bit AVR Microcontroller with 16K Bytes of In-System Programmable Flash Memory; Published: 17-Sep-2003; LatestRevisionDate: 13-Apr-2006; LatestRevisionNote: IPC-7351 Footprint Added.; DatasheetVersion: 2466E-AVR-10/02; PackageVersion: rev.B, Oct-2001; PackageReference: 44A; Publisher: Altium Limited; PackageDescription: 44-Pin Thin Quad Flat Pack 0.8 mm Pitch; ComponentLink1Description: Manufacturer Link; ComponentLink1URL: http://www.atmel.com; ComponentLink2Description: Datasheet; ComponentLink2URL: http://www.atmel.com/dyn/resources/prod_documents/doc2466.pdf
pins: 1 PB5 (MOSI) (io), 2 PB6 (MISO) (io), 3 PB7 (SCK) (io), 4 ~{RESET} (in), 5 VCC (power), 6 GND (power), 7 XTAL2, 8 XTAL1, 9 PD0 (RXD) (io), 10 PD1 (TXD) (io), 11 PD2 (INT0) (io), 12 PD3 (INT1) (io), 13 PD4 (OC1B) (io), 14 PD5 (OC1A) (io), 15 PD6 (ICP) (io), 16 PD7 (OC2) (io), 17 VCC (power), 18 GND (power), 19 PC0 (SCL) (io), 20 PC1 (SDA) (io), 21 PC2 (TCK) (io), 22 PC3 (TMS) (io), 23 PC4 (TDO) (io), 24 PC5 (TDI) (io), 25 PC6 (TOSC1) (io), 26 PC7 (TOSC2) (io), 27 AVCC (power), 28 GND (power), 29 AREF, 30 PA7 (ADC7) (io), 31 PA6 (ADC6) (io), 32 PA5 (ADC5) (io), 33 PA4 (ADC4) (io), 34 PA3 (ADC3) (io), 35 PA2 (ADC2) (io), 36 PA1 (ADC1) (io), 37 PA0 (ADC0) (io), 38 VCC (power), 39 GND (power), 40 PB0 (XCK/T0) (io), 41 PB1 (T1) (io), 42 PB2 (AIN0/INT2) (io), 43 PB3 (AIN1/OC0) (io), 44 PB4 (~{SS}) (io)

## ATmega64-16AI
designator U?
8-Bit AVR Microcontroller with 64K Bytes of In-System Programmable Flash Memory; Published: 17-Sep-2003; LatestRevisionDate: 13-Apr-2006; LatestRevisionNote: IPC-7351 Footprint Added.; DatasheetVersion: 2490C-AVR-009/02; PackageVersion: revB, Oct-2001; PackageReference: 64A; Publisher: Altium Limited; PackageDescription: 64-Pin Thin Quad Flat Pack 0.8 mm Pitch; Code_JEDEC: MS-026-AEB; ComponentLink1Description: Manufacturer Link; ComponentLink1URL: http://www.atmel.com; ComponentLink2Description: Datasheet; ComponentLink2URL: http://www.atmel.com/dyn/resources/prod_documents/doc2490.pdf
pins: 1 ~{PEN} (in), 2 PE0 RXD0/(PDI) (io), 3 PE1 (TXD0/PDO) (io), 4 PE2 (XCK0/AIN0) (io), 5 PE3 (OC3A/AIN1) (io), 6 PE4 (OC3B/INT4) (io), 7 PE5 (OC3C/INT5) (io), 8 PE6 (T3/INT6) (io), 9 PE7 (IC3/INT7) (io), 10 PB0 (~{SS}) (io), 11 PB1 (SCK) (io), 12 PB2 (MOSI) (io), 13 PB3 (MISO) (io), 14 PB4 (OC0) (io), 15 PB5 (OC1A) (io), 16 PB6 (OC1B) (io), 17 PB7 (OC2/OC1C) (io), 18 PG3/TOSC2 (io), 19 PG4/TOSC1 (io), 20 ~{RESET} (in), 21 VCC (power), 22 GND (power), 23 XTAL2, 24 XTAL1, 25 PD0 (SCL/INT0) (io), 26 PD1 (SDA/INT1) (io), 27 PD2 (RXD1/INT2) (io), 28 PD3 (TXD1/INT3) (io), 29 PD4 (IC1) (io), 30 PD5 (XCK1) (io), 31 PD6 (T1) (io), 32 PD7 (T2) (io), 33 PG0 (~{WR}) (io), 34 PG1 (~{RD}) (io), 35 PC0 (A8) (io), 36 PC1 (A9) (io), 37 PC2 (A10 (io), 38 PC3 (A11) (io), 39 PC4 (A12) (io), 40 PC5 (A13) (io), 41 PC6 (A14) (io), 42 PC7 (A15) (io), 43 PG2 (ALE) (io), 44 PA7 (AD7) (io), 45 PA6 (AD6) (io), 46 PA5 (AD5) (io), 47 PA4 (AD4) (io), 48 PA3 (AD3) (io), 49 PA2 (AD2) (io), 50 PA1 (AD1) (io), 51 PA0 (AD0) (io), 52 VCC (power), 53 GND (power), 54 PF7 (ADC7/TDI) (io), 55 PF6 (ADC6/TDO) (io), 56 PF5 (ADC5/TMS) (io), 57 PF4 (ADC4/TCK) (io), 58 PF3 (ADC3) (io), 59 PF2 (ADC2) (io), 60 PF1 (ADC1) (io), 61 PF0 (ADC0) (io), 62 AREF, 63 GND (power), 64 AVCC (power)

## ATMEGA88PA-AU
designator U?
8-Bit AVR Microcontroller with 8K Bytes of In-System Programmable Flash Memory
pins: 1 PD3 (INT1) (io), 2 PD4 (XCK/T0) (io), 3 GND, 4 VCC (power), 5 GND, 6 VCC (power), 7 PB6 (XTAL1/TOSC1) (io), 8 PB7 (XTAL2/TOSC2) (io), 9 PD5 (T1) (io), 10 PD6 (AIN0) (io), 11 PD7 (AIN1) (io), 12 PB0 (ICP) (io), 13 PB1 (OC1A) (io), 14 PB2 (~{SS}/OC1B) (io), 15 PB3 (MOSI/OC2) (io), 16 PB4 (MISO) (io), 17 PB5 (SCK) (io), 18 AVCC (power), 19 ADC6, 20 AREF, 21 GND, 22 ADC7, 23 PC0 (ADC0) (io), 24 PC1 (ADC1) (io), 25 PC2 (ADC2) (io), 26 PC3 (ADC3) (io), 27 PC4 (ADC4/SDA) (io), 28 PC5 (ADC5/SCL) (io), 29 PC6 (~{RESET}) (io), 30 PD0 (RXD) (io), 31 PD1 (TXD) (io), 32 PD2 (INT0) (io)

## ATMEGA88PA-MM
designator U?
MCU 8-bit ATmega AVR RISC 8KB Flash 2.5V/3.3V/5V 28-Pin VQFN EP; Manufacturer: Microchip / Atmel; Manufacturer Part Number: ATMEGA88PA-MMN; RAM Size: 1KB; Interface: I2C,SPI,UART,USART; Number of I/Os: 23; Number of Timers/Counters: 3; Frequency: 20MHz; Max Supply Voltage: 5.5V; Min Supply Voltage: 1.8V; Data Bus Width: 8b; Oscillator Type: Internal; Watchdog Timer: Yes; Peripherals: Brown-out Detect/Reset,POR,PWM,WDT; Supplier 1: Arrow Electronics; RoHS: Yes; Category: Microcontrollers; Mount: Surface Mount; Case/Package: PDIP; Number of Pins: 28; Contact Plating: Gold; Min Operating Temperature: -40°C; Max Operating Temperature: 105°C; Package Quantity: 490; Packaging: Tray; Number of Programmable I/O: 23; Max Frequency: 20MHz; Memory Type: FLASH; Memory Size: 8KB; Core Architecture: AVR; Series: AVR® ATmega; RoHS Compliant: Yes; ComponentLink1URL: http://www.mouser.com/ds/2/36/atmel-8271-8-bit-avr-microcontroller-atmega48a-48p-365589.pdf?src-supplier=Mouser; ComponentLink1Description: http://www.mouser.com/ds/2/36/atmel-8271-8-bit-avr-microcontroller-atmega48a-48p-365589.pdf?src-supplier=Mouser; ComponentLink2URL: http://www.produktinfo.conrad.com/datenblaetter/1200000-1299999/001267149-da-01-en-IC_MCU_8BIT_ATMEGA88PA_MMN_VFQFN_28_ATM.pdf?src-supplier=Conrad; ComponentLink2Description: http://www.produktinfo.conrad.com/datenblaetter/1200000-1299999/001267149-da-01-en-IC_MCU_8BIT_ATMEGA88PA_MMN_VFQFN_28_ATM.pdf?src-supplier=Conrad; ComponentLink3URL: http://www.atmel.com/Images/Atmel-8271-8-bit-AVR-Microcontroller-ATmega48A-48PA-88A-88PA-168A-168PA-328-328P_datasheet.pdf?src-supplier=Avnet; ComponentLink3Description: http://www.atmel.com/Images/Atmel-8271-8-bit-AVR-Microcontroller-ATmega48A-48PA-88A-88PA-168A-168PA-328-328P_datasheet.pdf?src-supplier=Avnet; ComponentLink4URL: http://www.atmel.com/Images/8271s.pdf?src-supplier=Digi-Key; ComponentLink4Description: http://www.atmel.com/Images/8271s.pdf?src-supplier=Digi-Key
pins: 0 GND (power), 1 PD3 (INT1) (io), 2 PD4 (XCK/T0) (io), 3 VCC (power), 4 GND (power), 5 PB6 (XTAL1/TOSC1) (io), 6 PB7 (XTAL2/TOSC2) (io), 7 PD5 (T1) (io), 8 PD6 (AIN0) (io), 9 PD7 (AIN1) (io), 10 PB0 (ICP) (io), 11 PB1 (OC1A) (io), 12 PB2 (~{SS}/OC1B) (io), 13 PB3 (MOSI/OC2) (io), 14 PB4 (MISO) (io), 15 PB5 (SCK) (io), 16 AVCC (power), 17 AREF (power), 18 GND (power), 19 PC0 (ADC0) (io), 20 PC1 (ADC1) (io), 21 PC2 (ADC2) (io), 22 PC3 (ADC3) (io), 23 PC4 (ADC4/SDA) (io), 24 PC5 (ADC5/SCL) (io), 25 PC6 (~{RESET}) (io), 26 PD0 (RXD) (io), 27 PD1 (TXD) (io), 28 PD2 (INT0) (io)

## ATTEN
designator Z?

## ATTEN-LP2E
designator Z?
SMD Attenuator 50 Ohms LP2E
pins: 0 GND, 1 GND hidden to GND, 2 RF1, 3 GND hidden to GND, 4 GND hidden to GND, 5 RF2, 6 GND hidden to GND

## ATTEN-YAT
designator Z?, comment YAT-5+
SMD Attenuator, DC-18 GHz
pins: 0 GND, 1 GND hidden to GND, 2 RF1, 3 GND hidden to GND, 4 GND hidden to GND, 5 RF2, 6 GND hidden to GND

## Attenuator
designator Z?
SMD Attenuator 3dB 50 Ohms 0805
pins: 1, 2, 3 GND

## ATtiny
designator U?
pins: 1 PB5/~{RESET} (out), 2 PB3, 3 PB4, 4 GND, 5 PB0/MOSI, 6 PB1/MISO, 7 PB2/SCK (power), 8 VCC (power)

## ATTN-PAT-x
designator Z?, comment PAT-X
PAT-x ATTENUATOR
pins: 1, 2, 3, 4

## BA50DD0WHFP
designator U?
Voltage Regulator, 5V, 2A, LDO
pins: 1 CTRL, 2 Vcc, 3 GND, 4 Vout, 5 NC

## BA2032
designator J1700A
2032 Battery Holder; Part Number: 22-B-11
footprint BA2032 (Coin Battery Holder)
pins: 1, 2

## BAS28
designator D?
Double Diode; Value: BAS28
part A pins: A1 A, K1 K
part B pins: A2 A, K2 K

## BAS31
designator D?
footprint SOT-23DIOAP (Anti-parallel diodes in SOT-23 package)
footprint SOT-23DAP (Anti-parallel diodes in SOT-23 package)
pins: A, K, KA

## BAS32
designator D3
pins: A, K

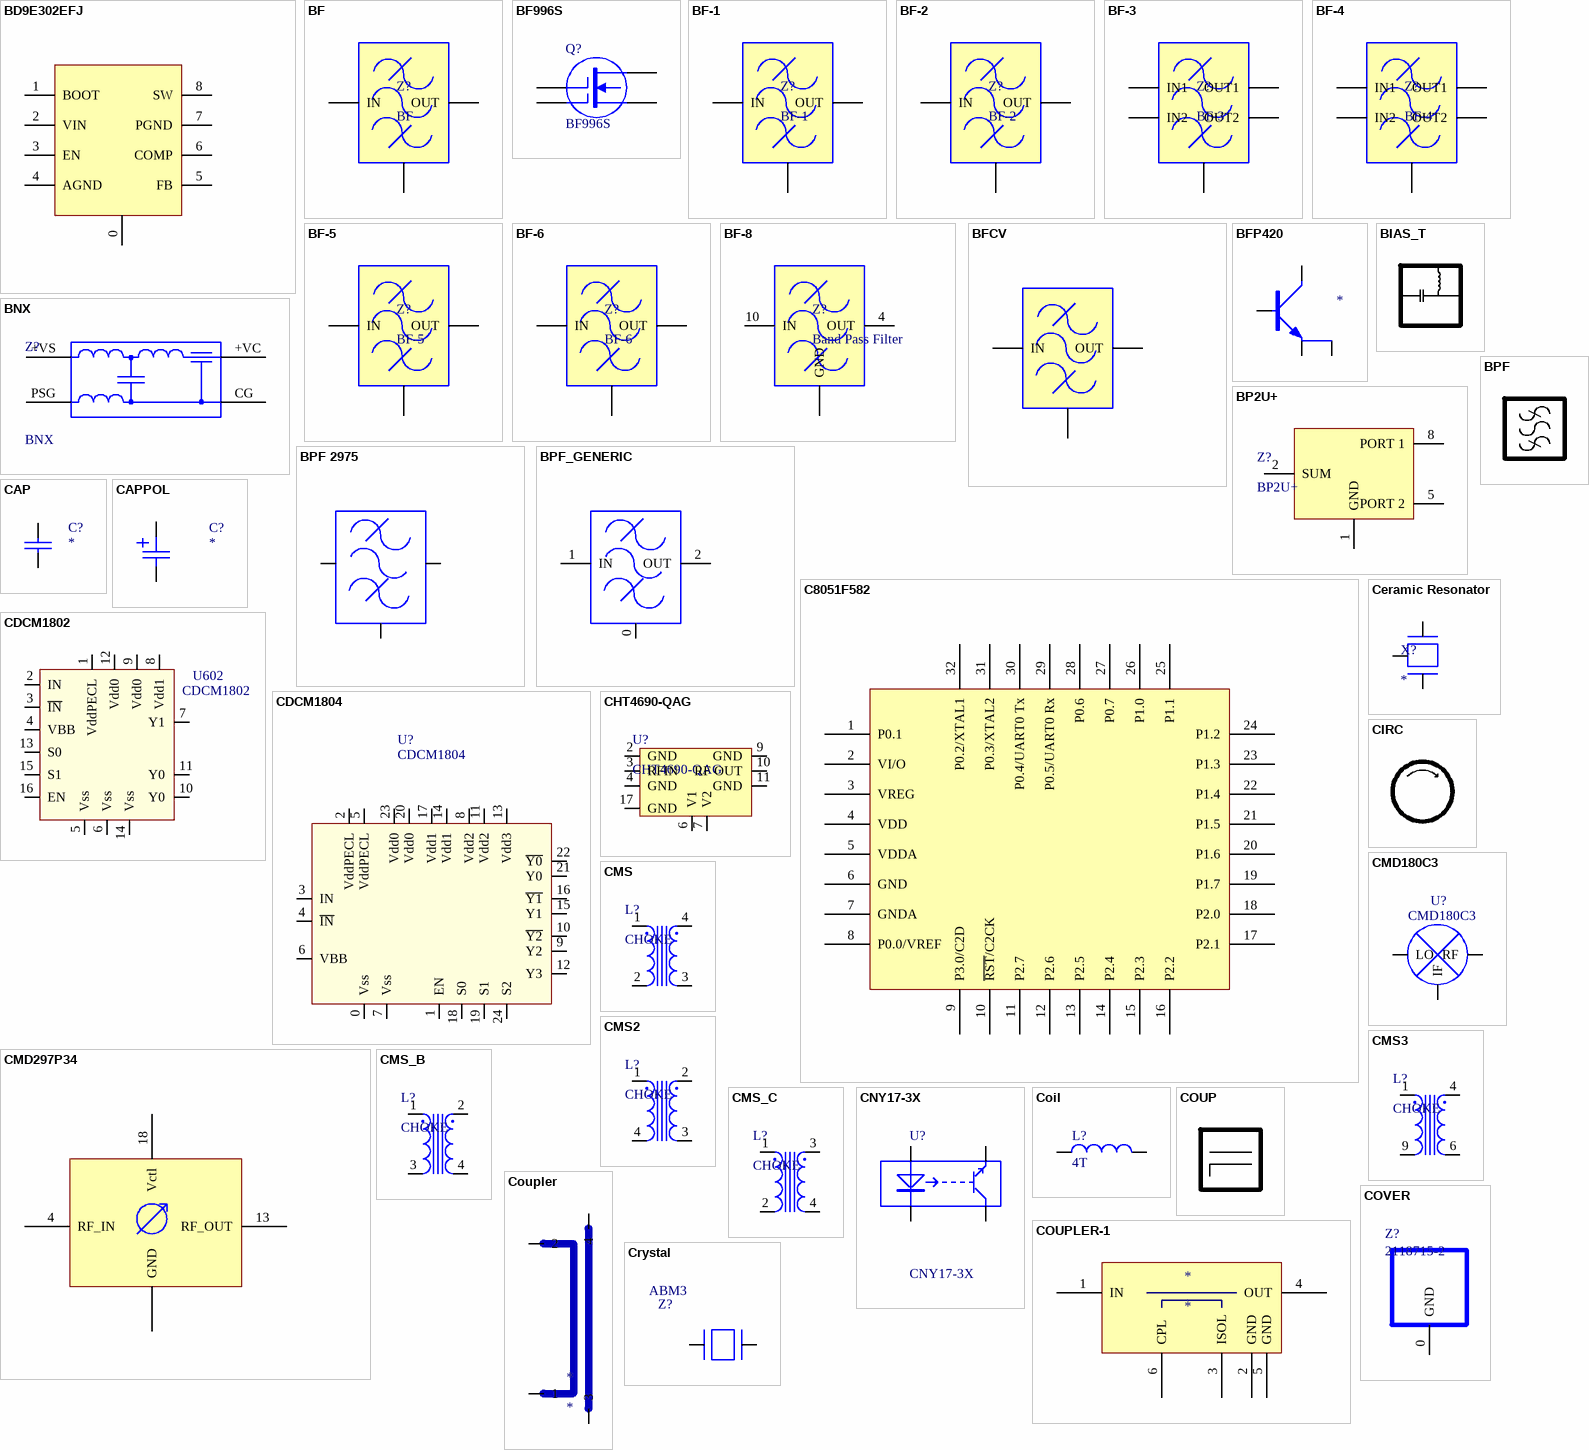
[diagram p5: symbols BD9E302EFJ to Crystal]

## BD9E302EFJ
designator U?
7.0V〜28V Input, 3A Integrated MOSFET Single Synchronous Buck DC/DC Converter; Part Number: 20-H10-04
pins: 0 PAD, 1 BOOT, 2 VIN, 3 EN, 4 AGND, 5 FB, 6 COMP, 7 PGND, 8 SW

## BF
designator Z?
Filter, Band Pass, 3-pin
pins: 0 GND, 1 IN, 2 OUT

## BF996S
designator Q?
Two-Gate, N-Channel MOSFET; Published: 24-Mar-1999; LatestRevisionDate: 17-Jul-2002; LatestRevisionNote: Re-released for DXP Platform.; PackageReference: T05A; Publisher: Altium Limited; Code_JEDEC: TS-001-AA
pins: D, G1, G2, S

## BF-1
designator Z?
Filter, Band Pass, 8-pin
pins: 1 GND, 2 IN, 3 GND hidden to GND, 4 GND hidden to GND, 5 GND hidden to GND, 6 OUT, 7 GND hidden to GND, 8 GND hidden to GND

## BF-2
designator Z?
Filter, Band Pass, 6-pin
pins: 1 GND, 2 IN, 3 GND hidden to GND, 4 GND hidden to GND, 5 OUT, 6 GND hidden to GND

## BF-3
designator Z?
Filter, Band Pass, 8-pin, Balanced
pins: 1 IN2, 2 IN1, 3 GND, 4 GND hidden to GND, 5 OUT2, 6 OUT1, 7 GND hidden to GND, 8 GND hidden to GND

## BF-4
designator Z?
Filter, Band Pass, 8-pin, Balanced
pins: 1 GND, 2 IN2, 3 IN1, 4 GND hidden to GND, 5 GND hidden to GND, 6 OUT2, 7 OUT1, 8 GND hidden to GND

## BF-5
designator Z?
Filter, Band Pass, 8-pin
pins: 1 IN, 2 GND, 3 GND hidden to GND, 4 GND hidden to GND, 5 OUT, 6 GND hidden to GND, 7 GND hidden to GND, 8 GND hidden to GND

## BF-6
designator Z?
Filter, Band Pass, 4-pin
pins: 1 IN, 2 GND, 3 OUT, 4 GND hidden to GND

## BF-8
designator Z?, comment Band Pass Filter
Filter, Band Pass, 10-pin
pins: 1 GND, 2 GND hidden to GND, 3 GND hidden to GND, 4 OUT, 5 GND hidden to GND, 6 GND hidden to GND, 7 GND hidden to GND, 8 GND hidden to GND, 9 GND hidden to GND, 10 IN

## BFCV
designator Z?
footprint JV1210C (BFCV Filter)
pins: 1 IN, 2 GND, 3 OUT, 4 GND hidden to GND

## BFP420
designator ?
pins: B, C, E1, E2

## BIAS_T
designator Z?

## BNX
designator Z?
Filter EMI/EMC PCB Mnt Murata; Value: BNX
footprint BNX (EMI/RFI BNX003-01 filter)
pins: +VC, +VS, CG, PSG

## BP2U+
designator Z?
Divider/Combiner, 2way, 0deg, 2100-2500MHz, SMD
pins: 1 GND, 2 SUM, 3 GND hidden to GND, 4 GND hidden to GND, 5 PORT 2, 6 GND hidden to GND, 7 GND hidden to GND, 8 PORT 1

## BPF
designator Z?

## BPF 2975
designator Z?, comment 3301-100 375MHz BPF
Filter, SAW, 375MHz, bw131MHz, SMD
pins: 0 GND, 1, 2

## BPF_GENERIC
designator Z?
BPF
pins: 0 GND, 1 IN, 2 OUT

## C8051F582
designator U?
8-Bit Microprocessor
pins: 1 P0.1, 2 VI/O, 3 VREG, 4 VDD, 5 VDDA, 6 GND, 7 GNDA, 8 P0.0/VREF, 9 P3.0/C2D, 10 ~{RST}/C2CK, 11 P2.7, 12 P2.6, 13 P2.5, 14 P2.4, 15 P2.3, 16 P2.2, 17 P2.1, 18 P2.0, 19 P1.7, 20 P1.6, 21 P1.5, 22 P1.4, 23 P1.3, 24 P1.2, 25 P1.1, 26 P1.0, 27 P0.7, 28 P0.6, 29 P0.5/UART0 Rx, 30 P0.4/UART0 Tx, 31 P0.3/XTAL2, 32 P0.2/XTAL1

## CAP
designator C?
Capacitor
pins: 1, 2

## CAPPOL
designator C?
Polarised Capacitor
pins: 1, 2

## CDCM1802
designator U602
CDCM1802 Clock Buffer With Programmable Divider,  LVPECL I/O + Additional LVCMOS Output
footprint CDCM1802 (CDCM1802 Clock Buffer With Programmable Divider,  LVPECL I/O + Additional LVCMOS Output)
pins: 0 GP hidden to GND, 1 VddPECL, 2 IN, 3 ~{IN}, 4 VBB, 5 Vss, 6 Vss, 7 Y1, 8 Vdd1, 9 Vdd0, 10 Y0, 11 Y0, 12 Vdd0, 13 S0, 14 Vss, 15 S1, 16 EN

## CDCM1804
designator U?
*Clock Buffer/Prog. Divider, 1:4, 800MHz, 3.3V, VQFN-24; Part Number: 53-1802-01
pins: 0 GP hidden to GND, 0 Vss, 1 EN, 2 VddPECL, 3 IN, 4 ~{IN}, 5 VddPECL, 6 VBB, 7 Vss, 8 Vdd2, 9 Y2, 10 ~{Y2}, 11 Vdd2, 12 Y3, 13 Vdd3, 14 Vdd1, 15 Y1, 16 ~{Y1}, 17 Vdd1, 18 S0, 19 S1, 20 Vdd0, 21 Y0, 22 ~{Y0}, 23 Vdd0, 24 S2

## Ceramic Resonator
designator X?
pins: 1, 2, 3

## CHT4690-QAG
designator U?
5-30GHz Attenuator, QFN Package
pins: 2 GND, 3 RFIN, 4 GND, 6 V1, 7 V2, 9 GND, 10 RF OUT, 11 GND, 17 GND

## CIRC
designator Z?

## CMD180C3
designator U?
GaAs MMIC Fundamental Mixer, 20-32 GHz
pins: 0 GND hidden to GND, 1 GND hidden to GND, 2 LO, 3 GND hidden to GND, 4 GND hidden to GND, 5 IF, 6 GND hidden to GND, 7 GND hidden to GND, 8 RF, 9 GND hidden to GND, 10 GND hidden to GND, 11 GND hidden to GND, 12 GND hidden to GND

## CMD297P34
designator U?
Part Number: 20-H10-04
pins: 0 GND, 1 NC, 2 NC, 3 GND, 4 RF_IN, 5 GND, 6 NC, 7 NC, 8 NC, 9 NC, 10 NC, 11 NC, 12 GND, 13 RF_OUT, 14 GND, 15 NC, 16 NC, 17 NC, 18 Vctl, 19 NC, 20 NC

## CMS
designator L?, comment CHOKE
Common Mode Choke
pins: 1, 2, 3, 4

## CMS2
designator L?, comment CHOKE
Common Mode Choke
pins: 1, 2, 3, 4

## CMS3
designator L?, comment CHOKE
Common Mode Choke
pins: 1, 4, 6, 9

## CMS_B
designator L?, comment CHOKE
Common Mode Choke
pins: 1, 2, 3, 4

## CMS_C
designator L?, comment CHOKE
Common Mode Choke
pins: 1, 2, 3, 4

## CNY17-3X
designator U?
CNY17-3X Transistor Output Optocoupler, Through Hole, 6-Pin DIP
footprint DIP6
pins: 1, 2, 4, 5

## Coil
designator L?, comment 4T
Coil; Value: 4T
pins: 1, 2

## COUP
designator *  (value not drawn)

## Coupler
designator *  (graphical)
pins: 1, 2, 3, 4

## COUPLER-1
designator *
Directional Coupler, 6-pin
pins: 1 IN, 2 GND, 3 ISOL, 4 OUT, 5 GND, 6 CPL

## COVER
designator Z?, comment 2118715-2
PCB Shield, Cover, 16.9 x 16.9 x 2.0 mm
pins: 0 GND

## Crystal
designator Z?, comment ABM3
pins: 1, 2

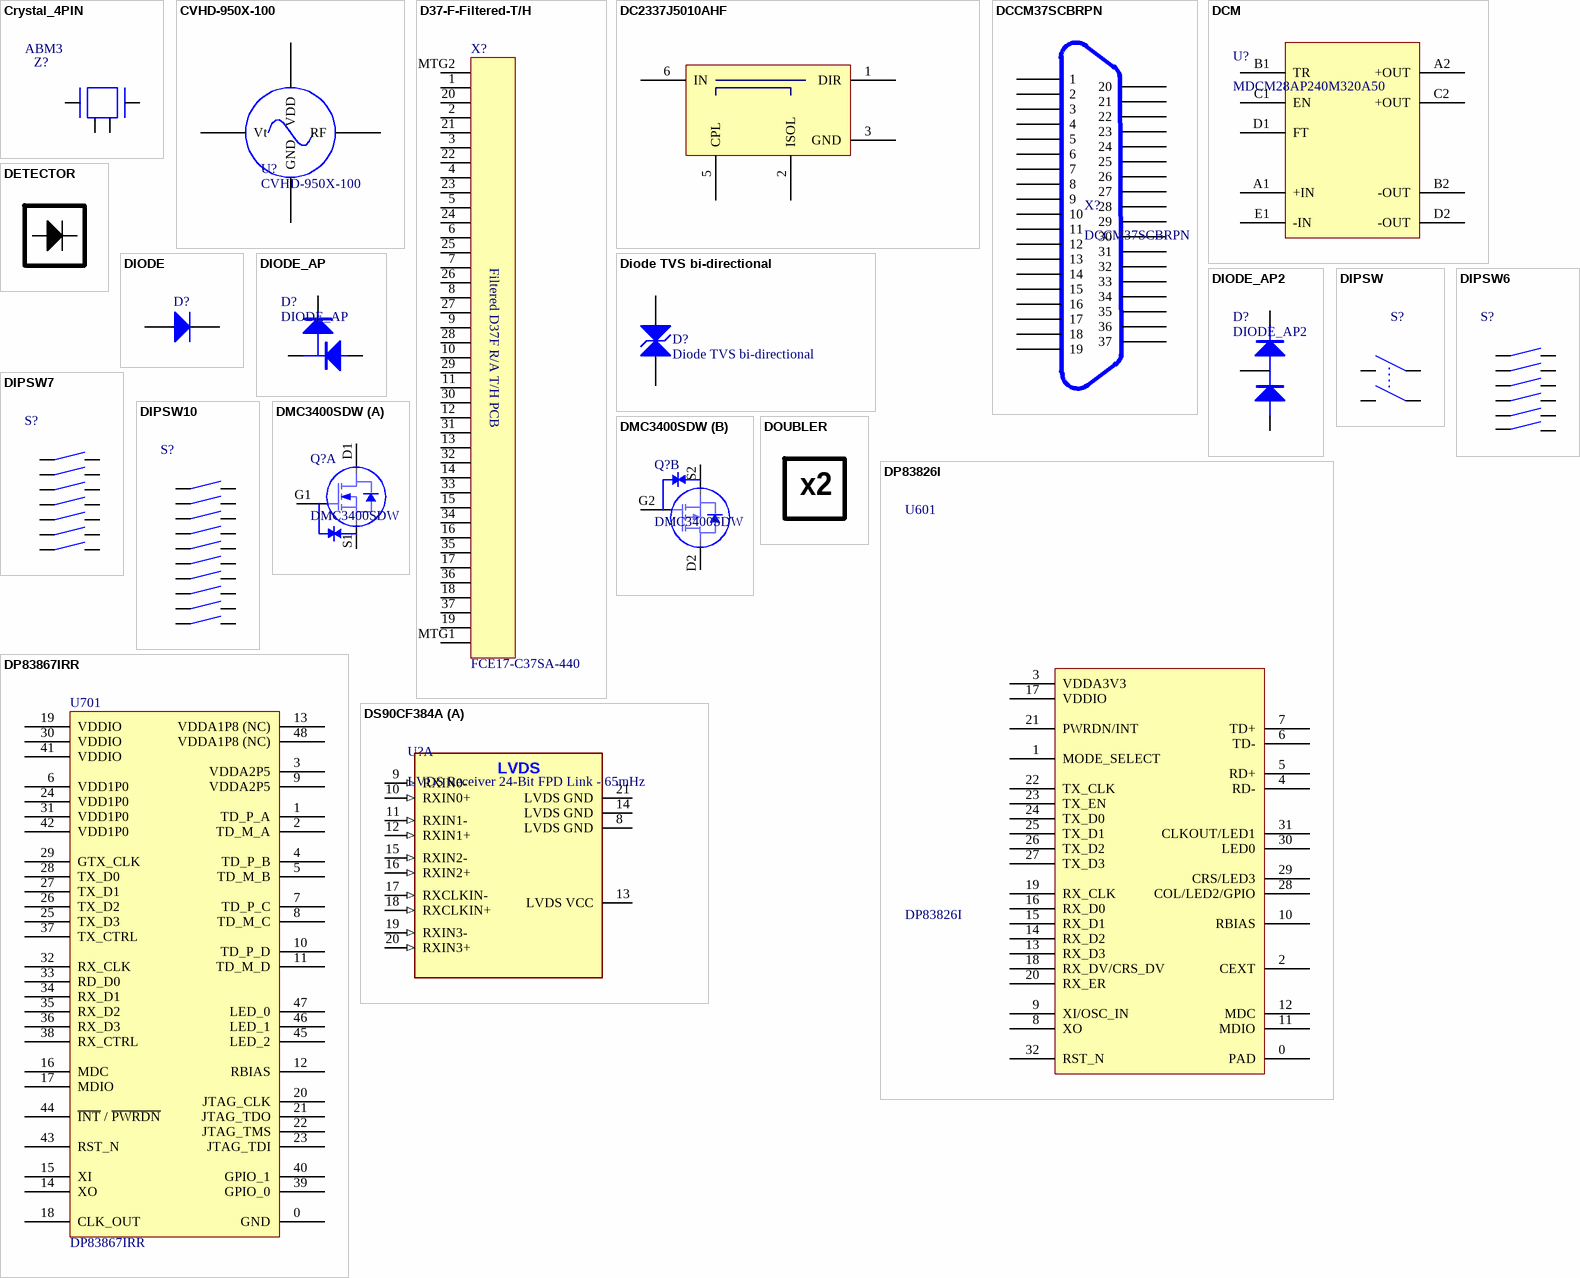
[diagram p6: symbols Crystal_4PIN to DS90CF384A]

## Crystal_4PIN
designator Z?, comment ABM3
Crystal, 4 pin
pins: 1, 2, 3, 4

## CVHD-950X-100
designator U?
VCXO, 100.00MHz, CMOS 3.3V, SMD
pins: 1 Vt, 2 GND, 3 RF "RF Out", 4 VDD "VCC"

## D37-F-Filtered-T/H
designator X?, comment FCE17-C37SA-440
Amphenol FCE17-C37SA-440 D37F Filtered R/A T/H connector; Part Number: 21-D37-02; MPN: FCE17-C37SA-440
pins: 1, 2, 3, 4, 5, 6, 7, 8, 9, 10, 11, 12, 13, 14, 15, 16, 17, 18, 19, 20, 21, 22, 23, 24, 25, 26, 27, 28, 29, 30, 31, 32, 33, 34, 35, 36, 37, MTG1, MTG2
text: Filtered D37F R/A T/H PCB

## DC2337J5010AHF
designator Z?
*Directional Coupler, 2300-3700MHz, 10dB, SMD
footprint DC2337J5010AHF (Directional Coupler, 2300-3700MHz, 10dB, SMD)
pins: 1 DIR, 2 ISOL, 3 GND, 4 GND hidden to GND, 5 CPL, 6 IN

## DCCM37SCBRPN
designator X?
37pin Micro-D Connector, Nickel Plating
pins: 1, 2, 3, 4, 5, 6, 7, 8, 9, 10, 11, 12, 13, 14, 15, 16, 17, 18, 19, 20, 21, 22, 23, 24, 25, 26, 27, 28, 29, 30, 31, 32, 33, 34, 35, 36, 37

## DCM
designator U?, comment MDCM28AP240M320A50
pins: A1 +IN, A2 +OUT, B1 TR, B2 -OUT, C1 EN, C2 +OUT, D1 FT, D2 -OUT, E1 -IN

## DETECTOR
designator *  (value not drawn)

## DIODE
designator D?
DIODE
pins: A, K

## Diode TVS bi-directional
designator D?
Published: 8-Jun-2000; LatestRevisionDate: 17-Jul-2002; LatestRevisionNote: Re-released for DXP Platform.; PackageReference: DIODE-0.7; Publisher: Altium Limited
pins: 1 A, 2 K

## DIODE_AP
designator D?
pins: A, K, KA

## DIODE_AP2
designator D?
pins: A, K, KA

## DIPSW
designator S?, comment DIP SWITCH  (value not drawn)
pins: 1, 2, 3, 4

## DIPSW6
designator S?  (value not drawn)
6-Way Dipswitch
pins: 1, 2, 3, 4, 5, 6, 7, 8, 9, 10, 11, 12

## DIPSW7
designator S?  (value not drawn)
7-Way Dipswitch
pins: 1, 2, 3, 4, 5, 6, 7, 8, 9, 10, 11, 12, 13, 14

## DIPSW10
designator S?  (value not drawn)
10-Way Dipswitch
pins: 1, 2, 3, 4, 5, 6, 7, 8, 9, 10, 11, 12, 13, 14, 15, 16, 17, 18, 19, 20

## DMC3400SDW
designator Q?
Complementary MOSFET, 0.3A, 30V
part A pins: D1, G1, S1
part B pins: D2, G2, S2

## DOUBLER
designator U?
text: x2

## DP83826I
designator U601
Ethernet PHY, Low-latency, 10/100Mbps
pins: 0 PAD, 1 MODE_SELECT, 2 CEXT, 3 VDDA3V3, 4 RD-, 5 RD+, 6 TD-, 7 TD+, 8 XO, 9 XI/OSC_IN, 10 RBIAS, 11 MDIO, 12 MDC, 13 RX_D3, 14 RX_D2, 15 RX_D1, 16 RX_D0, 17 VDDIO, 18 RX_DV/CRS_DV, 19 RX_CLK, 20 RX_ER, 21 PWRDN/INT, 22 TX_CLK, 23 TX_EN, 24 TX_D0, 25 TX_D1, 26 TX_D2, 27 TX_D3, 28 COL/LED2/GPIO, 29 CRS/LED3, 30 LED0, 31 CLKOUT/LED1, 32 RST_N

## DP83867IRR
designator U701
Ethernet Phy, Gigabit, High Immunity, QFN
pins: 0 GND, 1 TD_P_A, 2 TD_M_A, 3 VDDA2P5, 4 TD_P_B, 5 TD_M_B, 6 VDD1P0, 7 TD_P_C, 8 TD_M_C, 9 VDDA2P5, 10 TD_P_D, 11 TD_M_D, 12 RBIAS, 13 VDDA1P8 (NC), 14 XO, 15 XI, 16 MDC, 17 MDIO, 18 CLK_OUT, 19 VDDIO, 20 JTAG_CLK, 21 JTAG_TDO, 22 JTAG_TMS, 23 JTAG_TDI, 24 VDD1P0, 25 TX_D3, 26 TX_D2, 27 TX_D1, 28 TX_D0, 29 GTX_CLK, 30 VDDIO, 31 VDD1P0, 32 RX_CLK, 33 RD_D0, 34 RX_D1, 35 RX_D2, 36 RX_D3, 37 TX_CTRL, 38 RX_CTRL, 39 GPIO_0, 40 GPIO_1, 41 VDDIO, 42 VDD1P0, 43 RST_N, 44 ~{INT} / ~{PWRDN}, 45 LED_2, 46 LED_1, 47 LED_0, 48 VDDA1P8 (NC)

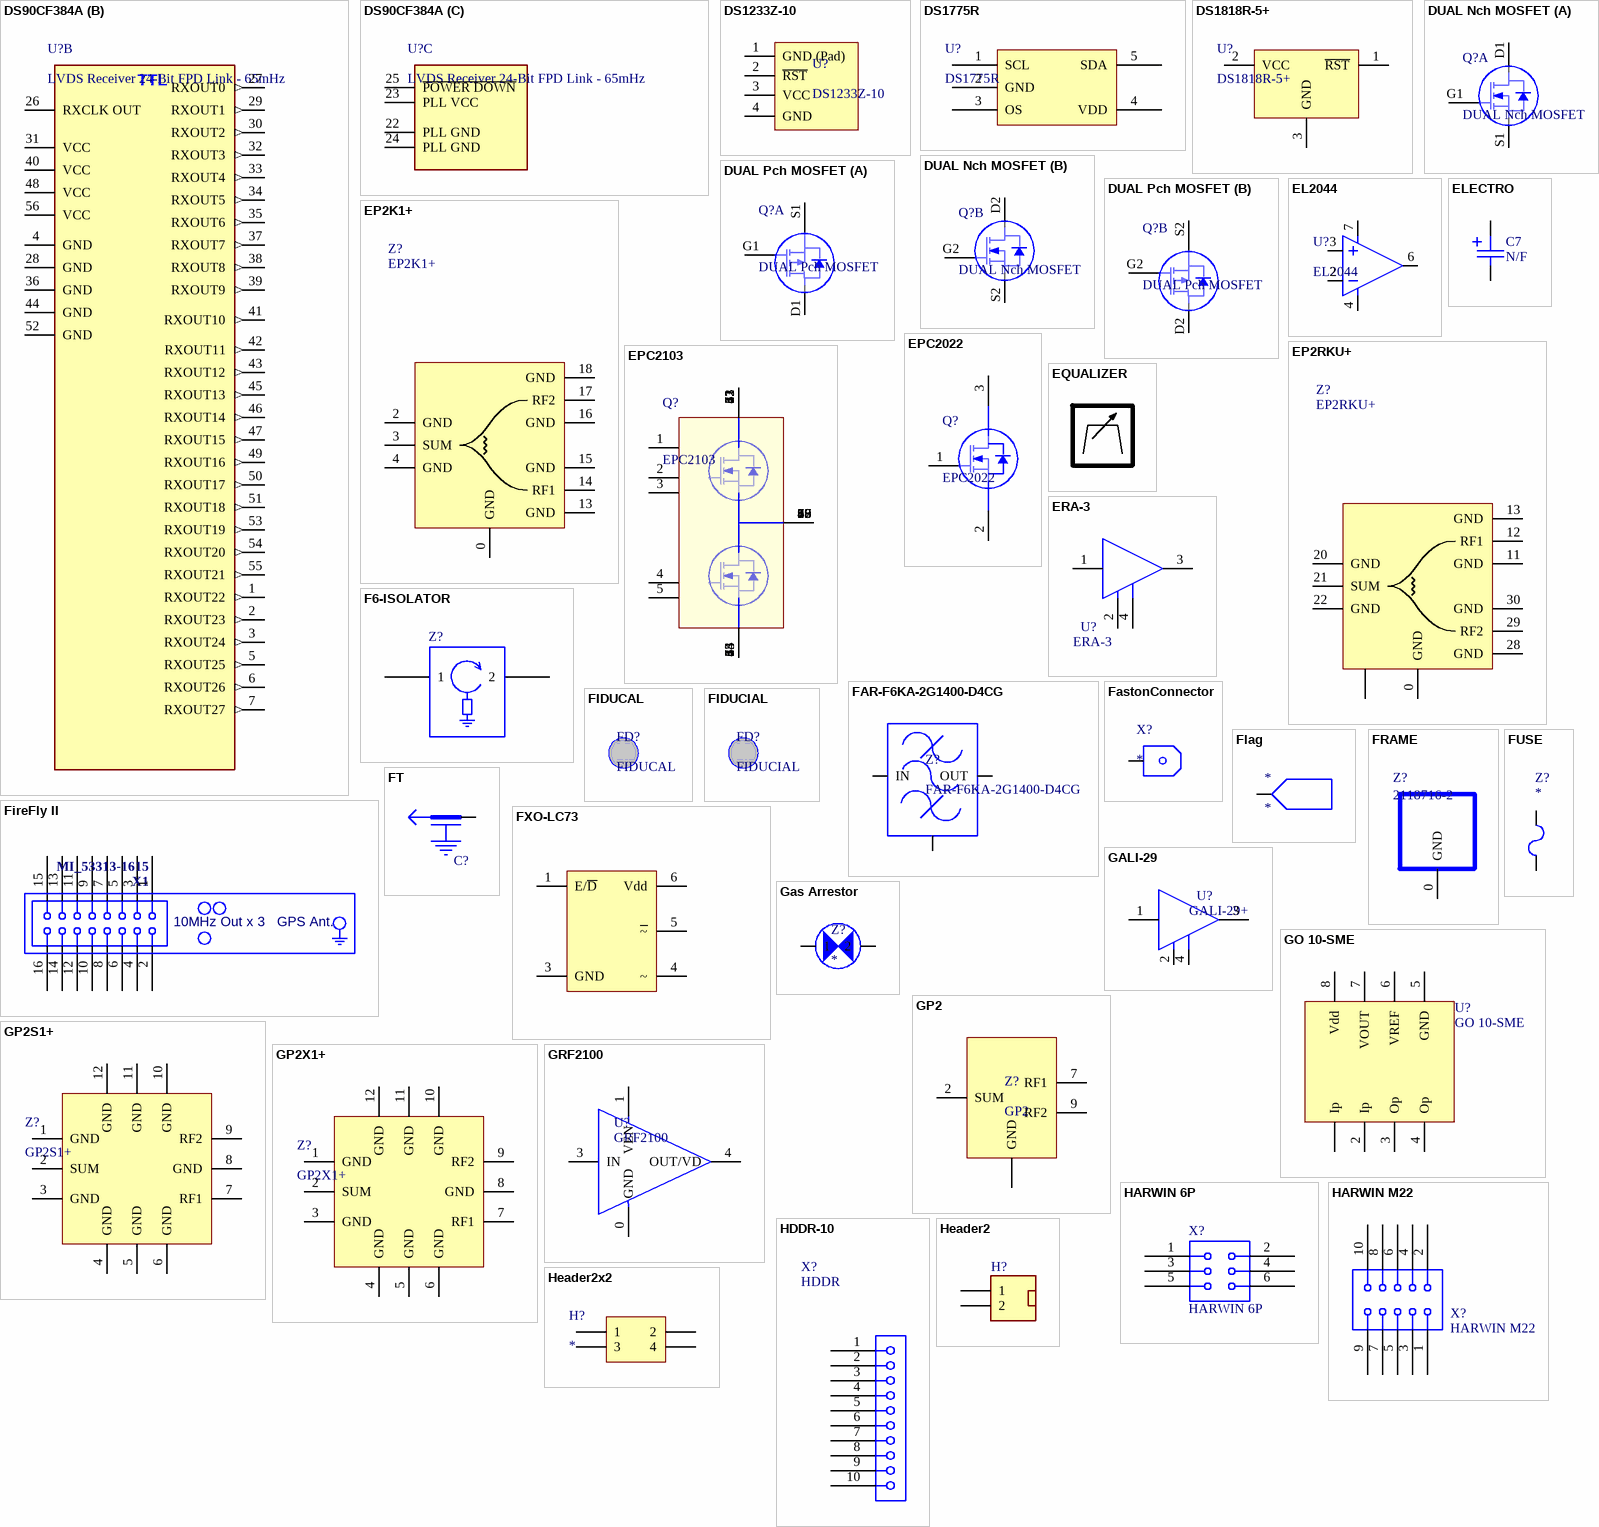
[diagram p7: symbols DS90CF384A to Header2x2]

## DS90CF384A
designator U?, comment LVDS Receiver 24-Bit FPD Link - 65mHz
footprint DS90CF384A
part A pins: 8 LVDS GND, 9 RXIN0- (in), 10 RXIN0+ (in), 11 RXIN1- (in), 12 RXIN1+ (in), 13 LVDS VCC, 14 LVDS GND, 15 RXIN2- (in), 16 RXIN2+ (in), 17 RXCLKIN- (in), 18 RXCLKIN+ (in), 19 RXIN3- (in), 20 RXIN3+ (in), 21 LVDS GND
part B pins: 1 RXOUT22 (out), 2 RXOUT23 (out), 3 RXOUT24 (out), 4 GND, 5 RXOUT25 (out), 6 RXOUT26 (out), 7 RXOUT27 (out), 26 RXCLK OUT, 27 RXOUT0 (out), 28 GND, 29 RXOUT1 (out), 30 RXOUT2 (out), 31 VCC, 32 RXOUT3 (out), 33 RXOUT4 (out), 34 RXOUT5 (out), 35 RXOUT6 (out), 36 GND, 37 RXOUT7 (out), 38 RXOUT8 (out), 39 RXOUT9 (out), 40 VCC, 41 RXOUT10 (out), 42 RXOUT11 (out), 43 RXOUT12 (out), 44 GND, 45 RXOUT13 (out), 46 RXOUT14 (out), 47 RXOUT15 (out), 48 VCC, 49 RXOUT16 (out), 50 RXOUT17 (out), 51 RXOUT18 (out), 52 GND, 53 RXOUT19 (out), 54 RXOUT20 (out), 55 RXOUT21 (out), 56 VCC
part C pins: 22 PLL GND, 23 PLL VCC, 24 PLL GND, 25 ~{POWER DOWN}
part A text: LVDS
part B text: TTL

## DS1233Z-10
designator U?
Power Supply Mon/Reset 5V, 10%, SOT-223
pins: 1 GND (Pad), 2 ~{RST}, 3 VCC, 4 GND hidden to GND, 4 GND

## DS1775R
designator U?
Temp Sensor
pins: 1 SCL (power), 2 GND, 3 OS, 4 VDD (power), 5 SDA

## DS1818R-5+
designator U?
Power Supply Mon/Reset 3.3V, 5%, SOT-23
pins: 1 ~{RST}, 2 VCC, 3 GND

## DUAL Nch MOSFET
designator Q?
Nch MOSFET, Dual, 0.2A, 60V
part A pins: D1, G1, S1
part B pins: D2, G2, S2

## DUAL Pch MOSFET
designator Q?
Pch MOSFET, Dual, 5A, 60V
part A pins: D1, G1, S1
part B pins: D2, G2, S2

## EL2044
designator U?
120MHz BW OpAmp
footprint EL2044
pins: 2, 3, 4, 6, 7

## ELECTRO
designator C7, comment N/F
footprint ETC-A
footprint JKDETC-A
footprint ETC-D
footprint JKDETC-D
footprint RB.2/.4
pins: 1, 2

## EP2K1+
designator Z?
Divider/Combiner, 2way 0deg, 2-26GHz, 4x4 SMD; Part Number: 33-0025; MANUFACTURER: MINICCTS; MODELNAME: EP2RKU+; Category: EMS Parts Master
pins: 0 GND, 1 GND hidden, 2 GND, 3 SUM, 4 GND, 5 GND hidden, 6 GND hidden, 7 GND hidden, 8 GND hidden, 9 GND hidden, 10 GND hidden, 11 GND hidden, 12 GND hidden, 13 GND, 14 RF1, 15 GND, 16 GND, 17 RF2, 18 GND, 19 GND hidden, 20 GND hidden, 21 GND hidden, 22 GND hidden, 23 GND hidden, 24 GND hidden

## EP2RKU+
designator Z?
Divider/Combiner, 2way 0deg, DC-18GHz, 5x5 SMD; Part Number: 33-0025; MANUFACTURER: MINICCTS; MODELNAME: EP2RKU+; Category: EMS Parts Master
pins: 0 GND, 1 GND, 2 GND, 3 GND, 4 GND, 5 GND, 6 GND, 7 GND, 8 GND, 9 GND, 10 GND, 11 GND, 12 RF1, 13 GND, 14 GND, 15 GND, 16 GND, 17 GND, 18 GND, 19 GND, 20 GND, 21 SUM, 22 GND, 23 GND, 24 GND, 25 GND, 26 GND, 27 GND, 28 GND, 29 RF2, 30 GND, 31 GND, 32 GND

## EPC2022
designator Q?
Nch eGaN FET, 90A, 100V
pins: 1 G, 2 S, 3 D, 4 D, 5 S, 6 S, 7 D, 8 D, 9 S, 10 S, 11 D, 12 D, 13 S, 14 S, 15 D, 16 D, 17 S, 18 S, 19 D, 20 D, 21 S, 22 S, 23 D, 24 D, 25 S, 26 S, 27 D, 28 D, 29 S, 30 S

## EPC2103
designator Q?
Nch Dual MOSFET, 30A, 80V
pins: 1 Vin, 2 G1, 3 HSR, 4 G2, 5 GND, 6 SW, 7 SW, 8 SW, 9 SW, 10 SW, 11 Vin, 12 Vin, 13 Vin, 14 GND, 15 GND, 16 SW, 17 SW, 18 SW, 19 SW, 20 SW, 21 Vin, 22 Vin, 23 Vin, 24 GND, 25 GND, 26 SW, 27 SW, 28 SW, 29 SW, 30 SW, 31 Vin, 32 Vin, 33 Vin, 34 GND, 35 GND, 36 SW, 37 SW, 38 SW, 39 SW, 40 SW, 41 Vin, 42 Vin, 43 GND, 44 GND, 45 GND, 46 SW, 47 SW, 48 SW, 49 SW, 50 SW, 51 Vin, 52 Vin, 53 GND, 54 GND, 55 GND, 56 SW, 57 SW, 58 SW, 59 SW, 60 SW, 61 Vin, 62 Vin, 63 GND, 64 GND, 65 GND, 66 SW, 67 SW, 68 SW, 69 SW, 70 SW, 71 Vin, 72 Vin, 73 GND, 74 GND, 75 GND

## EQUALIZER
designator *  (value not drawn)

## ERA-3
designator U?
pins: 1, 2 (power), 3, 4 (power)

## F6-ISOLATOR
designator Z?
F6-ISOLATOR
pins: 1, 2

## FAR-F6KA-2G1400-D4CG
designator Z?
Filter, SAW, 2140MHz, bw60MHz, SMD
pins: 1 IN, 2 GND, 3 GND hidden to GND, 4 OUT, 5 GND hidden to GND

## FastonConnector
designator X?
pins: 1

## FIDUCAL
designator FD?
Fiducal Mark
footprint Fiducial Mark (Fiducial Mark used for Pick and Place process)

## FIDUCIAL
designator FD?  (no BOM)
Fiducal Mark
footprint Fiducial Mark (Fiducial Mark used for Pick and Place process)

## FireFly II
designator X1, comment MI_53313-1615
pins: 1, 2, 3, 4, 5, 6, 7, 8, 9, 10, 11, 12, 13, 14, 15, 16
text: 10MHz Out x 3; GPS Ant.

## Flag
designator *
pins: 1

## FRAME
designator Z?, comment 2118716-2
PCB Shield, Frame, 16.5 x 16.5 x 3.6 mm
pins: 0 GND

## FT
designator C?  (value not drawn)  (mechanical)
pins: 1

## FUSE
designator Z?
Fuse
pins: 1, 2

## FXO-LC73
designator Z?
Crystal Osc, Differential Clock
pins: 1 E/~{D}, 2 NC hidden, 3 GND, 4 ~, 5 ~{~}, 6 Vdd

## GALI-29
designator U?, comment GALI-29+
Description  MMIC, DC-7GHz, G=15dB, P=11dBm, N=6dB, 3.6V/40mA SOT-89
pins: 1 +IN, 2 V-, 3 Out, 4 V-

## Gas Arrestor
designator Z?
pins: 1, 2

## GO 10-SME
designator U?
Current Transducer, SO-8
footprint SOIC-8 (Standard SO-8 package)
pins: 1 Ip, 2 Ip, 3 Op, 4 Op, 5 GND, 6 VREF, 7 VOUT, 8 Vdd

## GP2
designator Z?
Divider/Combiner, 2-way
pins: 0 GND, 1 GND hidden to GND, 2 SUM, 3 GND hidden to GND, 4 GND hidden to GND, 5 GND hidden to GND, 6 GND hidden to GND, 7 RF1, 8 GND hidden to GND, 9 RF2, 10 GND hidden to GND, 11 GND hidden to GND, 12 GND hidden to GND

## GP2S1+
designator Z?
Divider/Combiner, 2way 0deg, 500-2500MHz, 3x3 SMD
pins: 0 GND hidden to GND, 1 GND, 2 SUM, 3 GND, 4 GND, 5 GND, 6 GND, 7 RF1, 8 GND, 9 RF2, 10 GND, 11 GND, 12 GND

## GP2X1+
designator Z?
Divider/Combiner, 2way 0deg, 2700-7200MHz, 3x3 SMD
pins: 0 GND hidden to GND, 1 GND, 2 SUM, 3 GND, 4 GND, 5 GND, 6 GND, 7 RF1, 8 GND, 9 RF2, 10 GND, 11 GND, 12 GND

## GRF2100
designator U?
Guerilla GRF2100 low-current LNA, 0.1-3.8GHz, 1V8-5V0, gain 16.5dB, NF0.80dB; Part Number: 58-GRF2100-01
pins: 0 GND, 1 VEN, 2 N/C hidden, 3 IN, 4 OUT/VD, 5 N/C hidden, 6 N/C hidden

## HARWIN 6P
designator X?
pins: 1, 2, 3, 4, 5, 6

## HARWIN M22
designator X?
pins: 1, 2, 3, 4, 5, 6, 7, 8, 9, 10

## HDDR-10
designator X?, comment HDDR
pins: 1, 2, 3, 4, 5, 6, 7, 8, 9, 10

## Header2
designator H?  (value not drawn)
Header, 2-Pin
pins: 1, 2

## Header2x2
designator H?
Header, 2-pin, dual row
pins: 1, 2, 3, 4

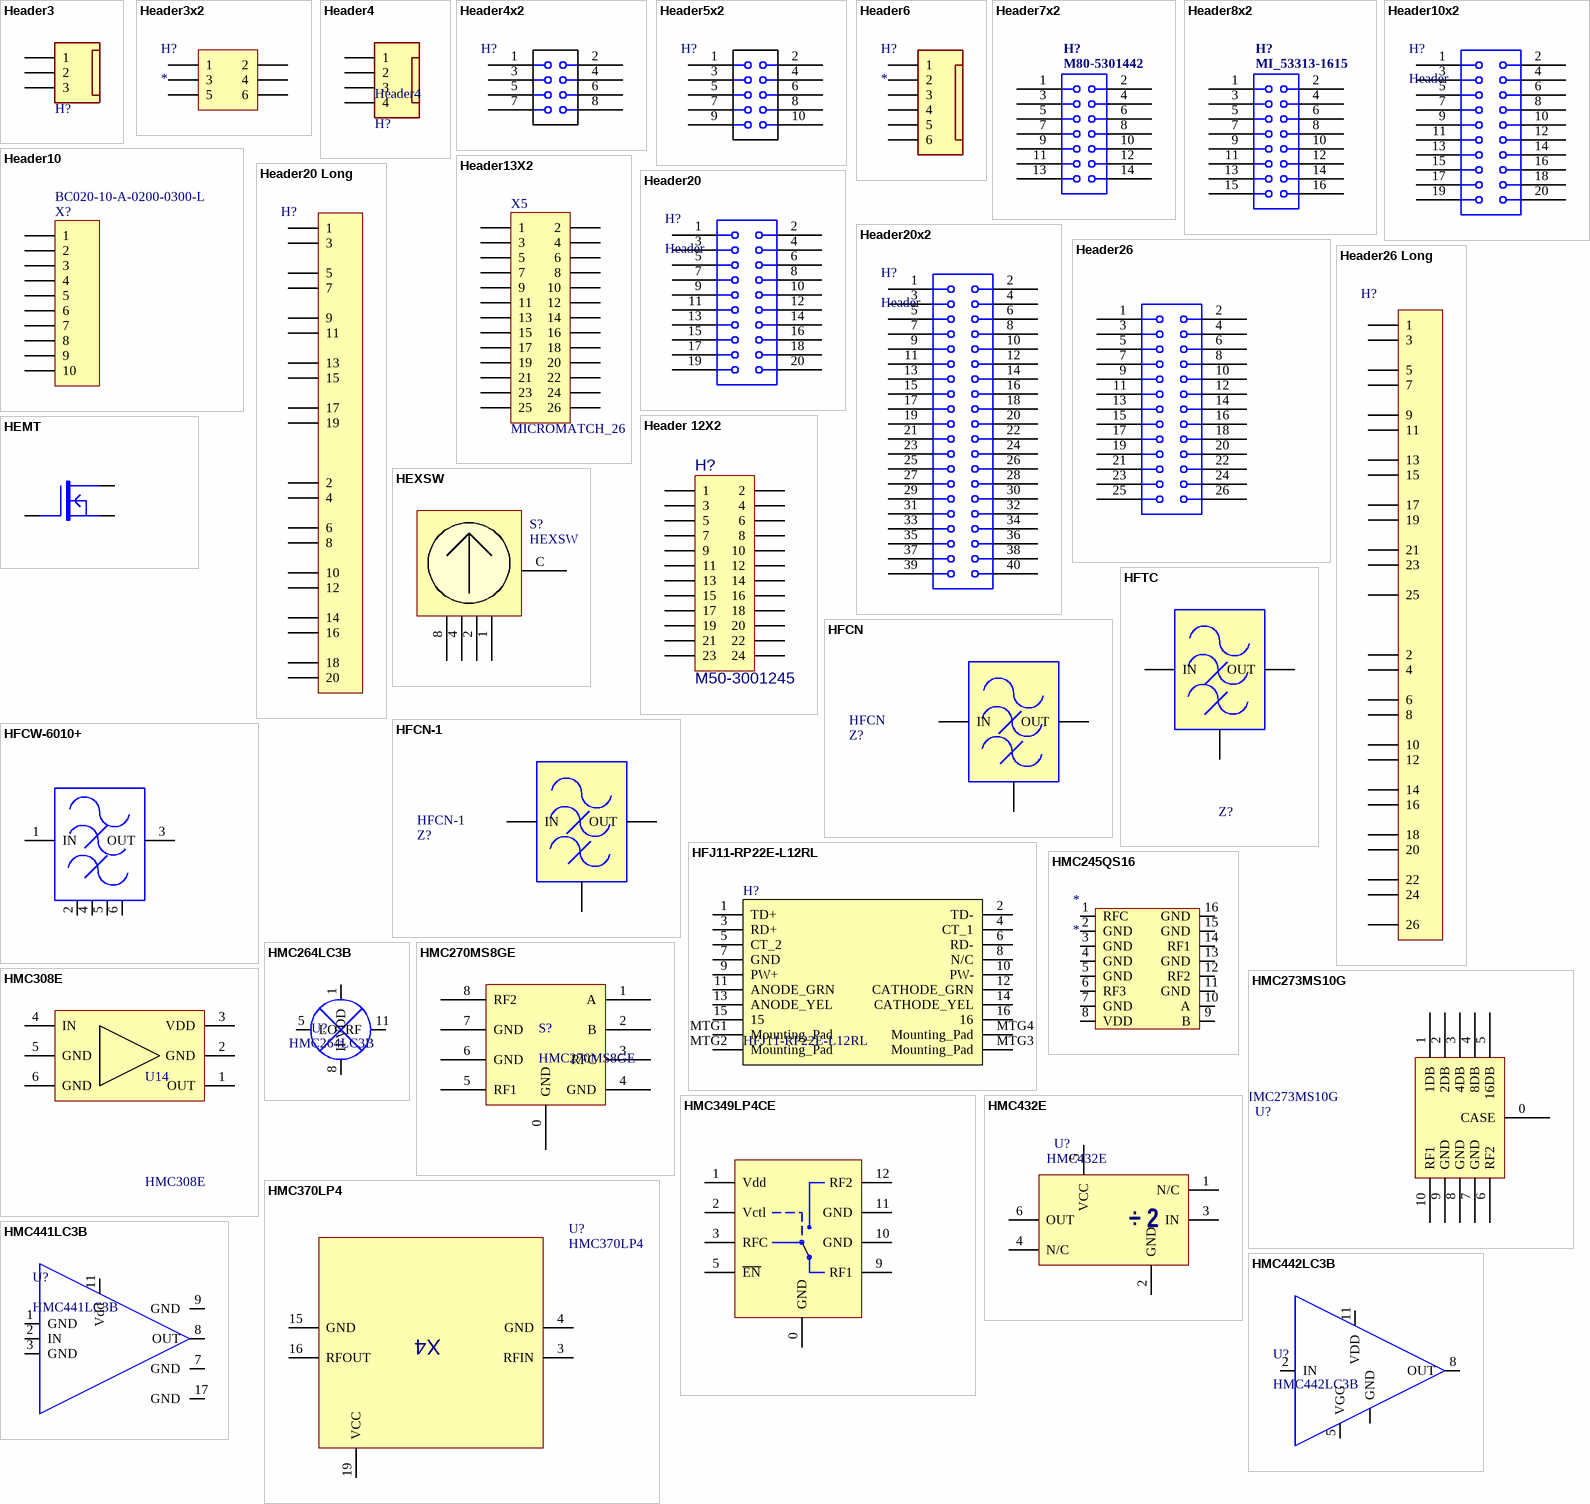
[diagram p8: symbols Header3 to HMC442LC3B]

## Header3
designator H?  (value not drawn)
Header, 3-Pin
pins: 1, 2, 3

## Header3x2
designator H?
Header, 3-pin, dual row
pins: 1, 2, 3, 4, 5, 6

## Header4
designator H?
Header, 4-Pin
pins: 1, 2, 3, 4

## Header4x2
designator H?
PCB Header, 4+4way
pins: 1, 2, 3, 4, 5, 6, 7, 8

## Header5x2
designator H?
PCB Header, 5+5way
pins: 1, 2, 3, 4, 5, 6, 7, 8, 9, 10

## Header6
designator H?
Header, 6-Pin
pins: 1, 2, 3, 4, 5, 6

## Header7x2
designator H?, comment M80-5301442
Header, 7-Pin, Dual row
pins: 1, 2, 3, 4, 5, 6, 7, 8, 9, 10, 11, 12, 13, 14

## Header8x2
designator H?, comment MI_53313-1615
Header, 8-Pin, Dual row
pins: 1, 2, 3, 4, 5, 6, 7, 8, 9, 10, 11, 12, 13, 14, 15, 16

## Header10
designator X?, comment BC020-10-A-0200-0300-L
Header, 10-Pin
pins: 1, 2, 3, 4, 5, 6, 7, 8, 9, 10

## Header10x2
designator H?, comment Header
PCB Header, 10+10 way
pins: 1, 2, 3, 4, 5, 6, 7, 8, 9, 10, 11, 12, 13, 14, 15, 16, 17, 18, 19, 20

## Header13X2
designator X5, comment MICROMATCH_26
Header, 13-Pin, Dual row; LatestRevisionDate: 17-Jul-2002; LatestRevisionNote: Re-released for DXP Platform.; Publisher: Altium Limited
pins: 1, 2, 3, 4, 5, 6, 7, 8, 9, 10, 11, 12, 13, 14, 15, 16, 17, 18, 19, 20, 21, 22, 23, 24, 25, 26

## Header20
designator H?, comment Header
Header, 20-Pin
pins: 1, 2, 3, 4, 5, 6, 7, 8, 9, 10, 11, 12, 13, 14, 15, 16, 17, 18, 19, 20

## Header20 Long
designator H?
PCB Header, 20way
pins: 1, 2, 3, 4, 5, 6, 7, 8, 9, 10, 11, 12, 13, 14, 15, 16, 17, 18, 19, 20

## Header20x2
designator H?, comment Header
PCB Header, 20+20 way
pins: 1, 2, 3, 4, 5, 6, 7, 8, 9, 10, 11, 12, 13, 14, 15, 16, 17, 18, 19, 20, 21, 22, 23, 24, 25, 26, 27, 28, 29, 30, 31, 32, 33, 34, 35, 36, 37, 38, 39, 40

## Header26
designator H?, comment M80-5002642
PCB Header, 13+13way
pins: 1, 2, 3, 4, 5, 6, 7, 8, 9, 10, 11, 12, 13, 14, 15, 16, 17, 18, 19, 20, 21, 22, 23, 24, 25, 26

## Header26 Long
designator H?
PCB Header, 26way
pins: 1, 2, 3, 4, 5, 6, 7, 8, 9, 10, 11, 12, 13, 14, 15, 16, 17, 18, 19, 20, 21, 22, 23, 24, 25, 26

## Header 12X2
designator H?, comment M50-3001245
Header, 12+12; LatestRevisionDate: 17-Jul-2002; LatestRevisionNote: Re-released for DXP Platform.; Publisher: Altium Limited
signal-integrity model Connector
pins: 1, 2, 3, 4, 5, 6, 7, 8, 9, 10, 11, 12, 13, 14, 15, 16, 17, 18, 19, 20, 21, 22, 23, 24

## HEMT
designator Q?
FET, HEMT
pins: D, G, S

## HEXSW
designator S?
pins: 1, 2, 4, 8, C

## HFCN
designator Z?
Filter, LTCC High Pass, 1206 size
pins: 1 IN, 2 GND, 3 OUT, 4 GND hidden to GND

## HFCN-1
designator Z?
Filter, LTCC High Pass, 1206 size
pins: 1 IN, 2 GND, 3 OUT, 4 GND hidden to GND, 5 GND hidden to GND, 6 GND hidden to GND

## HFCW-6010+
designator Z?
BPF
pins: 1 IN, 2 GND, 3 OUT, 4 GND, 5 GND, 6 GND

## HFJ11-RP22E-L12RL
designator H?
RJ-11 jack with integrated magnetics; Manufacturer_Name: Halo Electronics; Part Number: 21-A8-11; Datasheet Link: https://componentsearchengine.com/Datasheets/1/HFJ11-RP22E-L12RL.pdf; Height: 13.64mm; Manufacturer_Part_Number: HFJ11-RP22E-L12RL; Mouser Part Number: 493-HFJ11RP22EL12RL; Mouser Price/Stock: https://www.mouser.com/Search/Refine.aspx?Keyword=493-HFJ11RP22EL12RL
pins: 1 TD+, 2 TD-, 3 RD+, 4 CT_1, 5 CT_2, 6 RD-, 7 GND, 8 N/C, 9 PW+, 10 PW-, 11 ANODE_GRN, 12 CATHODE_GRN, 13 ANODE_YEL, 14 CATHODE_YEL, 15, 16, MTG1 Mounting_Pad, MTG2 Mounting_Pad, MTG3 Mounting_Pad, MTG4 Mounting_Pad

## HFTC
designator Z?
Filter, Band Pass, 2500-2780MHz, SMD 6.35x7.87x3.81mm; Part Number: 20-H10-04
footprint FR933
pins: 1 GND, 2 IN, 3 GND hidden to GND, 4 GND hidden to GND, 5 OUT, 6 GND hidden to GND

## HMC245QS16
designator *
pins: 1 RFC, 2 GND, 3 GND, 4 GND, 5 GND, 6 RF3, 7 GND, 8 VDD, 9 B, 10 A, 11 GND, 12 RF2, 13 GND, 14 RF1, 15 GND, 16 GND

## HMC264LC3B
designator U?
Mixer, Harmonic, 21-31GHz, IF=DC-4GHz, LO=-2dBm, LC3B
pins: 0 GND hidden to GND, 1 VDD, 2 N/C hidden to GND, 3 N/C hidden to GND, 4 GND hidden to GND, 5 LO, 6 GND hidden to GND, 7 GND hidden to GND, 8 IF, 9 GND hidden to GND, 10 GND hidden to GND, 11 RF, 12 GND hidden to GND

## HMC270MS8GE
designator S?
RF Switch, SPDT, DC-8GHz, IL=1.5dB, I=45dB, P=23dBm, -5V, MSOP-8
pins: 0 GND, 1 A, 2 B, 3 RFC, 4 GND, 5 RF1, 6 GND, 7 GND, 8 RF2

## HMC273MS10G
designator U?
pins: 0 CASE, 1 1DB, 2 2DB, 3 4DB, 4 8DB, 5 16DB, 6 RF2, 7 GND, 8 GND, 9 GND, 10 RF1

## HMC308E
designator U14
General Purpose 100mW GaAs MMIC Amplifier
pins: 1 OUT, 2 GND, 3 VDD, 4 IN, 5 GND, 6 GND

## HMC349LP4CE
designator U?
pins: 0 GND, 1 Vdd, 2 Vctl, 3 RFC, 4 hidden to GND, 5 ~{EN}, 6 hidden to GND, 7 hidden to GND, 8 hidden to GND, 9 RF1, 10 GND, 11 GND, 12 RF2, 13 hidden to GND, 14 hidden to GND, 15 hidden to GND, 16 hidden to GND

## HMC370LP4
designator U?
pins: 0 GND hidden to GND, 1 NC hidden to GND, 2 NC hidden to GND, 3 RFIN, 4 GND, 5 NC hidden to GND, 6 NC hidden to GND, 7 NC hidden to GND, 8 NC hidden to GND, 9 NC hidden to GND, 10 NC hidden to GND, 11 NC hidden to GND, 12 NC hidden to GND, 13 NC hidden to GND, 14 NC hidden to GND, 15 GND, 16 RFOUT, 17 NC hidden to GND, 18 NC hidden to GND, 19 VCC, 20 NC hidden to GND, 21 NC hidden to GND, 22 NC hidden to GND, 23 NC hidden to GND, 24 NC hidden to GND
text: X4

## HMC432E
designator U?
SMT GaAs HBT MMIC  DIVIDE-BY-2, DC - 8 GHz
pins: 1 N/C, 2 GND, 3 IN, 4 N/C, 5 VCC, 6 OUT
text: ÷ 2

## HMC441LC3B
designator U?
GaAs SMT PHEMT LNA, 6-18GHz
pins: 1 GND, 2 IN, 3 GND, 7 GND, 8 OUT, 9 GND, 11 Vdd, 17 GND

## HMC442LC3B
designator U?
GaAa pHEMT MMIC LOW NOISE  AMPLIFIER, 17 - 27 GHz
pins: 0 GND, 1 GND hidden to GND, 2 IN, 3 GND hidden to GND, 4 NC hidden to GND, 5 VGG, 6 NC hidden to GND, 7 GND hidden to GND, 8 OUT, 9 GND hidden to GND, 10 NC hidden to GND, 11 VDD, 12 NC hidden to GND

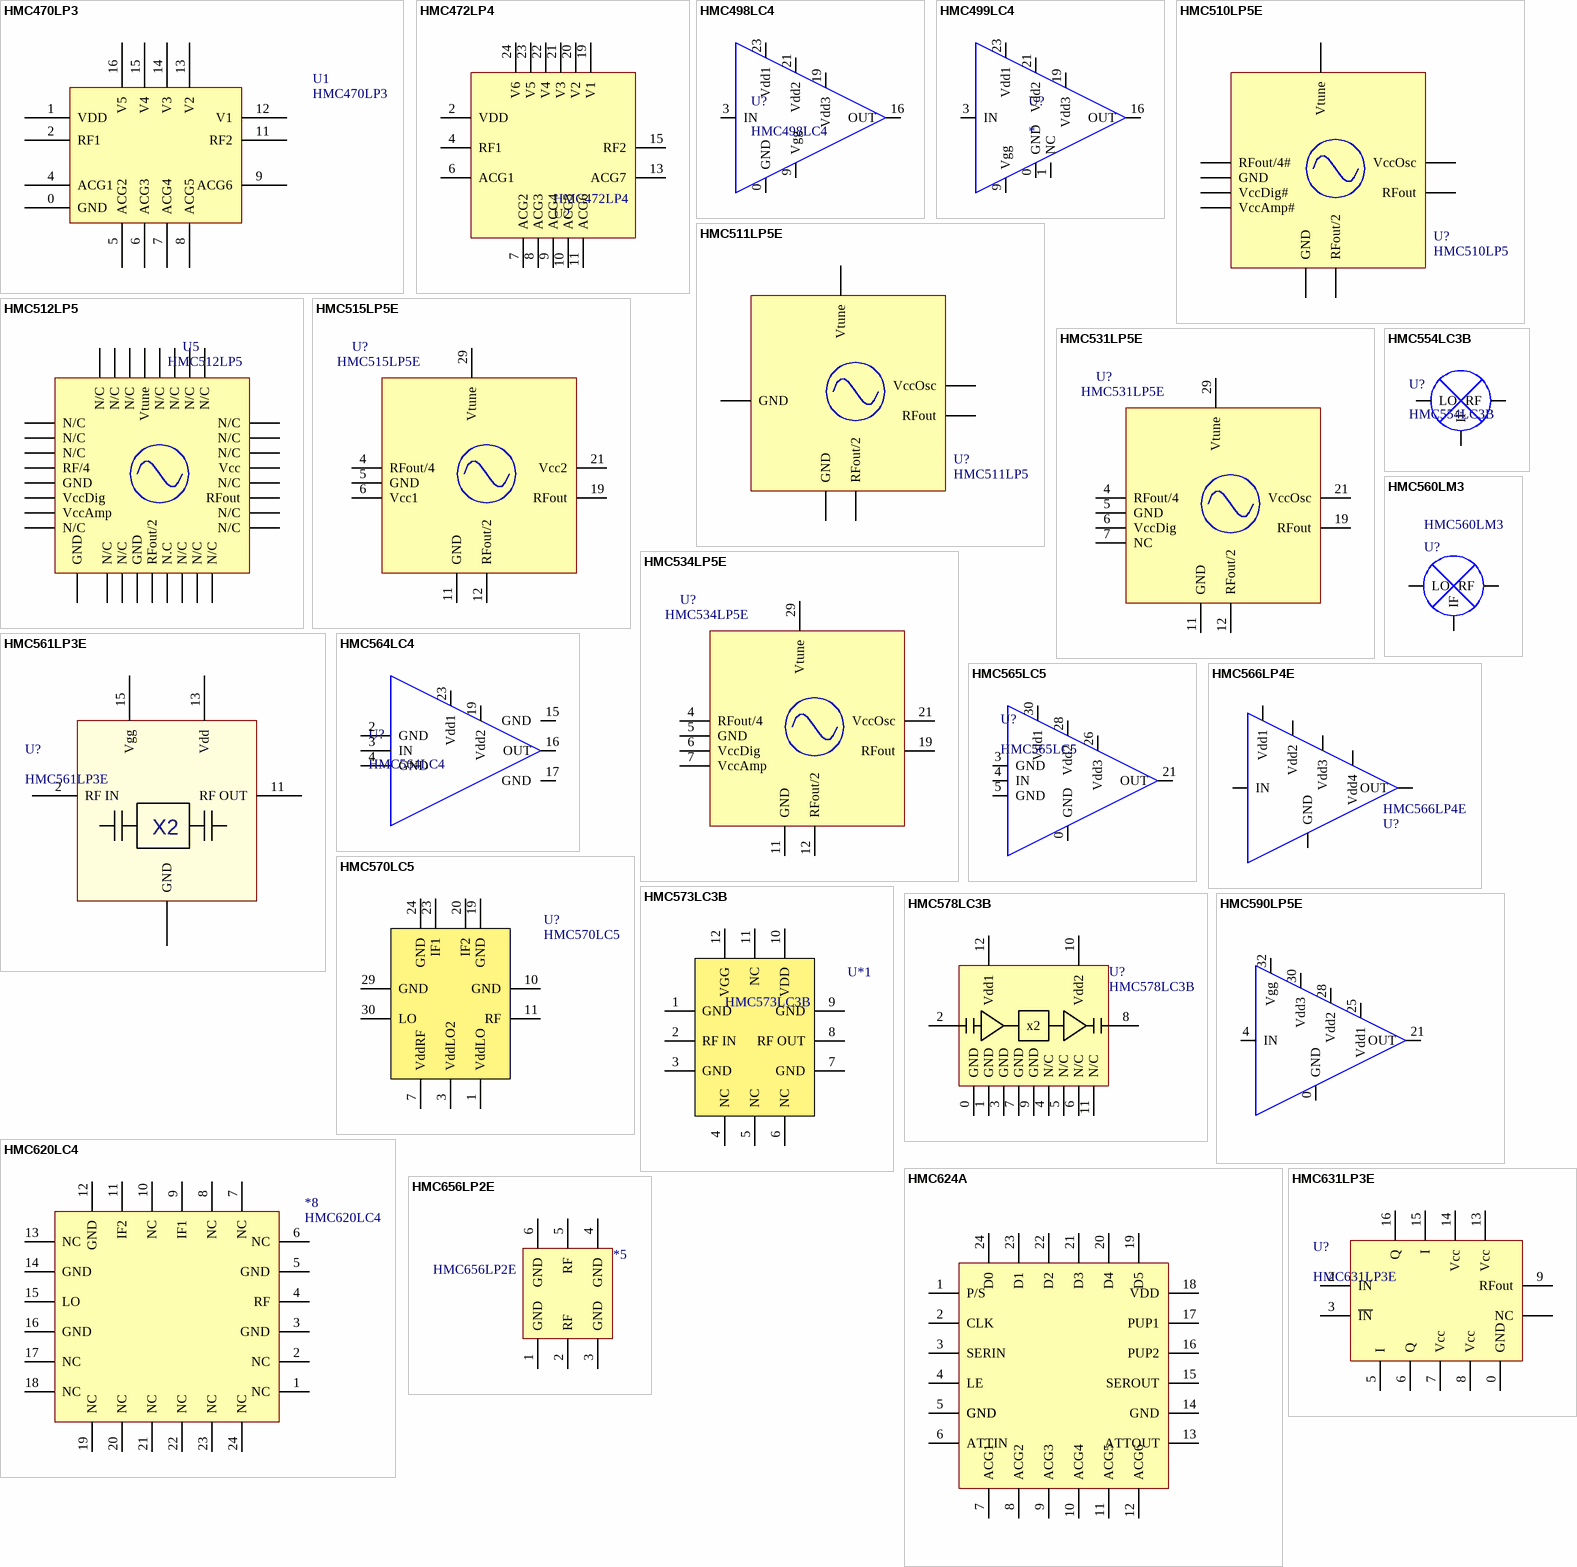
[diagram p9: symbols HMC470LP3 to HMC656LP2E]

## HMC470LP3
designator U1
pins: 0 GND, 1 VDD, 2 RF1, 3 NC hidden to GND, 4 ACG1, 5 ACG2, 6 ACG3, 7 ACG4, 8 ACG5, 9 ACG6, 10 NC hidden to GND, 11 RF2, 12 V1, 13 V2, 14 V3, 15 V4, 16 V5

## HMC472LP4
designator U2
0.5 dB LSB GaAs MMIC 6-BIT DIGITAL  POSITIVE CONTROL ATTENUATOR, DC - 3.8 GHz
pins: 0 GND hidden to GND, 1 N/C hidden to GND, 2 VDD, 3 N/C hidden to GND, 4 RF1, 5 N/C hidden to GND, 6 ACG1, 7 ACG2, 8 ACG3, 9 ACG4, 10 ACG5, 11 ACG6, 12 N/C hidden to GND, 13 ACG7, 14 N/C hidden to GND, 15 RF2, 16 N/C hidden to GND, 17 N/C hidden to GND, 18 N/C hidden to GND, 19 V1 "16dB", 20 V2 "8dB", 21 V3 "4dB", 22 V4 "2dB", 23 V5 "1dB", 24 V6 "0.5dB"

## HMC498LC4
designator U?
Analog Devices GaAs PHEMT MEDIUM / POWER AMPLIFIER, 17 - 24 GHz
pins: 0 GND, 1 GND hidden to GND, 2 GND hidden to GND, 3 IN, 4 GND hidden to GND, 5 GND hidden to GND, 6 GND hidden to GND, 7 GND hidden to GND, 8 GND hidden to GND, 9 Vgg, 10 GND hidden to GND, 11 GND hidden to GND, 12 GND hidden to GND, 13 GND hidden to GND, 14 GND hidden to GND, 15 GND hidden to GND, 16 OUT, 17 GND hidden to GND, 18 GND hidden to GND, 19 Vdd3, 20 GND hidden to GND, 21 Vdd2, 22 GND hidden to GND, 23 Vdd1, 24 GND hidden to GND

## HMC499LC4
designator U?
MMIC, 21-32GHz, P=24dBm, G=16dB, 5V@200mA, LC4
pins: 0 GND, 1 NC, 2 GND hidden to GND, 3 IN, 4 GND hidden to GND, 5 NC hidden to GND, 6 NC hidden to GND, 7 NC hidden to GND, 8 NC hidden to GND, 9 Vgg, 10 NC hidden to GND, 11 NC hidden to GND, 12 NC hidden to GND, 13 NC hidden to GND, 14 NC hidden to GND, 15 GND hidden to GND, 16 OUT, 17 GND hidden to GND, 18 NC hidden to GND, 19 Vdd3, 20 NC hidden to GND, 21 Vdd2, 22 NC hidden to GND, 23 Vdd1, 24 NC hidden to GND

## HMC510LP5E
designator U?, comment HMC510LP5
MMIC VCO with Half Frequency Output,  8.45 GHz to 9.55 GHz
pins: 0 GND hidden to GND, 1 N/C hidden to GND, 2 N/C hidden to GND, 3 N/C hidden to GND, 4 RFout/4# "RFout/4", 5 GND, 6 VccDig# "VccDig", 7 VccAmp#, 8 N/C hidden to GND, 9 N/C hidden to GND, 10 N/C hidden to GND, 11 GND, 12 RFout/2, 13 N.C hidden to GND, 14 N/C hidden to GND, 15 N/C hidden to GND, 16 N/C hidden to GND, 17 N/C hidden to GND, 18 N/C hidden to GND, 19 RFout, 20 N/C hidden to GND, 21 VccOsc, 22 N/C hidden to GND, 23 N/C hidden to GND, 24 N/C hidden to GND, 25 N/C hidden to GND, 26 N/C hidden to GND, 27 N/C hidden to GND, 28 N/C hidden to GND, 29 Vtune, 30 N/C hidden to GND, 31 N/C hidden to GND, 32 N/C hidden to GND